# Altium integrated library Motorola Microcontroller 8-Bit.IntLib: 909 symbols (part 30 of 31)
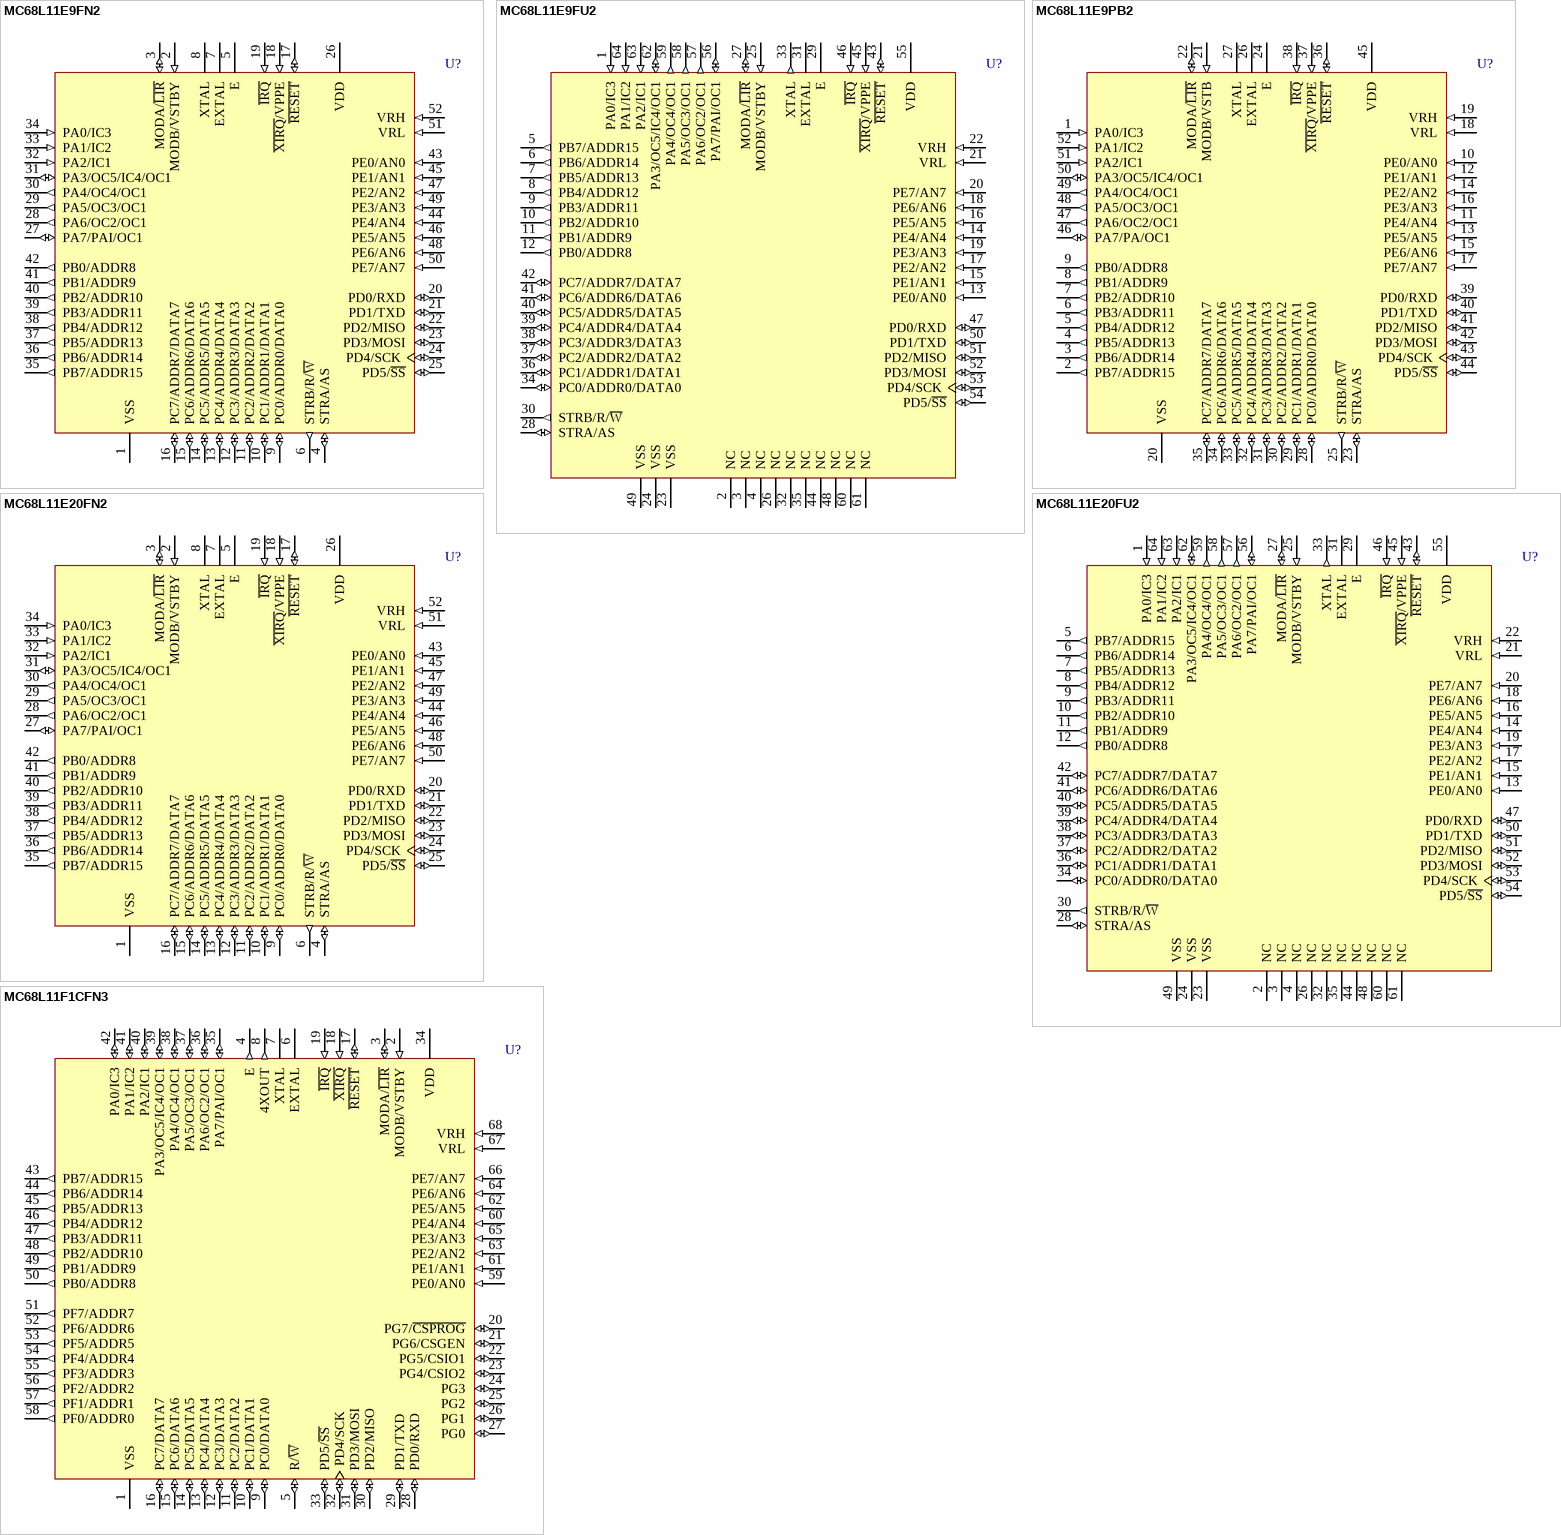
[diagram p142: symbols MC68L11E9FN2 to MC68L11F1CFN3]

## MC68L11E20FU2
designator U?
8-Bit Microcontroller; Published: 17-Jan-2003; LatestRevisionDate: 13-Apr-2006; LatestRevisionNote: IPC-7351 Footprint Added.; DatasheetVersion: 25-Jul-2002; PackageVersion: rev4, Jul-2002; PackageReference: 840C; Publisher: Altium Limited; PackageDescription: 64-Pin Quad Flat Pack 0.8 mm Pitch; ComponentLink1Description: Manufacturer Link; ComponentLink1URL: http://www.freescale.com/; ComponentLink2Description: Datasheet; ComponentLink2URL: http://www.freescale.com/files/microcontrollers/doc/data_sheet/M68HC11E.pdf
footprint 840C_N (QFP, 64-Leads, Body 14x14mm, Pitch 0.8mm, IPC Medium Density)
footprint 840C_L (QFP, 64-Leads, Body 14x14mm, Pitch 0.8mm, IPC High Density)
footprint 840C_M (QFP, 64-Leads, Body 14x14mm, Pitch 0.8mm, IPC Low Density)
3D model MC68L11-840C (64-Pin Quad Flat Pack 0.8 mm Pitch)
pins: 1 PA0/IC3 (in), 2 NC, 3 NC, 4 NC, 5 PB7/ADDR15 (out), 6 PB6/ADDR14 (out), 7 PB5/ADDR13 (out), 8 PB4/ADDR12 (out), 9 PB3/ADDR11 (out), 10 PB2/ADDR10 (out), 11 PB1/ADDR9 (out), 12 PB0/ADDR8 (out), 13 PE0/AN0 (in), 14 PE4/AN4 (in), 15 PE1/AN1 (in), 16 PE5/AN5 (in), 17 PE2/AN2 (in), 18 PE6/AN6 (in), 19 PE3/AN3 (in), 20 PE7/AN7 (in), 21 VRL (in), 22 VRH (in), 23 VSS (power), 24 VSS (power), 25 MODB/VSTBY (in), 26 NC, 27 MODA/~{LIR} (io), 28 STRA/AS (io), 29 E, 30 STRB/R/~{W} (out), 31 EXTAL, 32 NC, 33 XTAL (out), 34 PC0/ADDR0/DATA0 (io), 35 NC, 36 PC1/ADDR1/DATA1 (io), 37 PC2/ADDR2/DATA2 (io), 38 PC3/ADDR3/DATA3 (io), 39 PC4/ADDR4/DATA4 (io), 40 PC5/ADDR5/DATA5 (io), 41 PC6/ADDR6/DATA6 (io), 42 PC7/ADDR7/DATA7 (io), 43 ~{RESET} (io), 44 NC, 45 ~{XIRQ}/VPPE (in), 46 ~{IRQ} (in), 47 PD0/RXD (io), 48 NC, 49 VSS (power), 50 PD1/TXD (io), 51 PD2/MISO (io), 52 PD3/MOSI (io), 53 PD4/SCK (io), 54 PD5/~{SS} (io), 55 VDD (power), 56 PA7/PAI/OC1 (io), 57 PA6/OC2/OC1 (out), 58 PA5/OC3/OC1 (out), 59 PA4/OC4/OC1 (out), 60 NC, 61 NC, 62 PA3/OC5/IC4/OC1 (io), 63 PA2/IC1 (in), 64 PA1/IC2 (in)

## MC68L11F1CFN3
designator U?
8-Bit Microcontroller; Published: 17-Jan-2003; LatestRevisionDate: 13-Apr-2006; LatestRevisionNote: IPC-7351 Footprint Added.; DatasheetVersion: 10-Jan-1997; PackageVersion: 2001; PackageReference: 779-02; Publisher: Altium Limited; PackageDescription: 68-Pin Leaded Chip Carrier 1.27 mm Pitch; ComponentLink1Description: Manufacturer Link; ComponentLink1URL: http://www.freescale.com/
footprint 779-02_N (Leaded Chip Carrier, 68-Leads, Body 24.2x24.2mm, Pitch 1.27mm, IPC Medium Density)
footprint 779-02_L (Leaded Chip Carrier, 68-Leads, Body 24.2x24.2mm, Pitch 1.27mm, IPC High Density)
footprint 779-02_M (Leaded Chip Carrier, 68-Leads, Body 24.2x24.2mm, Pitch 1.27mm, IPC Low Density)
3D model MC68L11-779-02 (68-Pin Leaded Chip Carrier 1.27 mm Pitch)
pins: 1 VSS (power), 2 MODB/VSTBY (in), 3 MODA/~{LIR} (io), 4 E (out), 5 R/~{W} (io), 6 EXTAL, 7 XTAL, 8 4XOUT (out), 9 PC0/DATA0 (io), 10 PC1/DATA1 (io), 11 PC2/DATA2 (io), 12 PC3/DATA3 (io), 13 PC4/DATA4 (io), 14 PC5/DATA5 (io), 15 PC6/DATA6 (io), 16 PC7/DATA7 (io), 17 ~{RESET} (io), 18 ~{XIRQ} (in), 19 ~{IRQ} (in), 20 PG7/~{CSPROG} (io), 21 PG6/CSGEN (io), 22 PG5/CSIO1 (io), 23 PG4/CSIO2 (io), 24 PG3 (io), 25 PG2 (io), 26 PG1 (io), 27 PG0 (io), 28 PD0/RXD (io), 29 PD1/TXD (io), 30 PD2/MISO (io), 31 PD3/MOSI (io), 32 PD4/SCK (io), 33 PD5/~{SS} (io), 34 VDD (power), 35 PA7/PAI/OC1 (io), 36 PA6/OC2/OC1 (io), 37 PA5/OC3/OC1 (io), 38 PA4/OC4/OC1 (io), 39 PA3/OC5/IC4/OC1 (io), 40 PA2/IC1 (io), 41 PA1/IC2 (io), 42 PA0/IC3 (io), 43 PB7/ADDR15 (out), 44 PB6/ADDR14 (out), 45 PB5/ADDR13 (out), 46 PB4/ADDR12 (out), 47 PB3/ADDR11 (out), 48 PB2/ADDR10 (out), 49 PB1/ADDR9 (out), 50 PB0/ADDR8 (out), 51 PF7/ADDR7 (out), 52 PF6/ADDR6 (out), 53 PF5/ADDR5 (out), 54 PF4/ADDR4 (out), 55 PF3/ADDR3 (out), 56 PF2/ADDR2 (out), 57 PF1/ADDR1 (out), 58 PF0/ADDR0 (out), 59 PE0/AN0 (in), 60 PE4/AN4 (in), 61 PE1/AN1 (in), 62 PE5/AN5 (in), 63 PE2/AN2 (in), 64 PE6/AN6 (in), 65 PE3/AN3 (in), 66 PE7/AN7 (in), 67 VRL (in), 68 VRH (in)

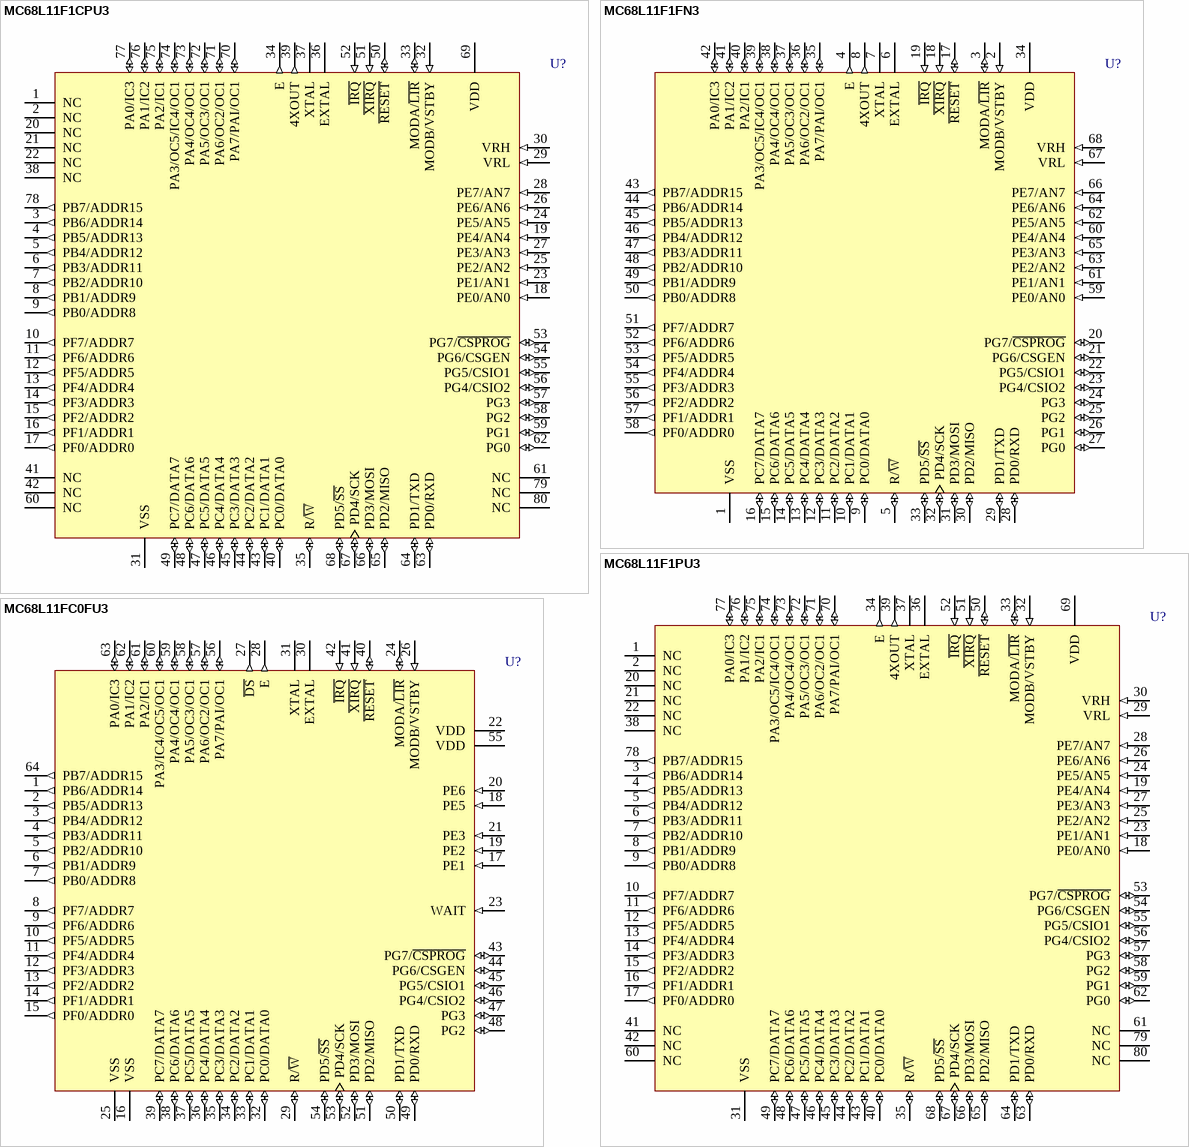
[diagram p105: symbols MC68L11F1CPU3 to MC68L11FC0FU3]

## MC68L11F1CPU3
designator U?
8-Bit Microcontroller; Published: 17-Jan-2003; LatestRevisionDate: 13-Apr-2006; LatestRevisionNote: IPC-7351 Footprint Added.; DatasheetVersion: 10-Jan-1997; PackageVersion: 2000; PackageReference: 841B; Publisher: Altium Limited; PackageDescription: 80-Pin Plastic Quad Flat Pack 0.65 mm Pitch; Code_IPC: QFP65P1720X1720-80; ComponentLink1Description: Manufacturer Link; ComponentLink1URL: http://www.freescale.com/
footprint 841B_N (QFP, 80-Leads, Body 14 x 14mm, Pitch 0.65mm, IPC Medium Density)
footprint 841B_L (QFP, 80-Leads, Body 14 x 14mm, Pitch 0.65mm, IPC High Density)
footprint 841B_M (QFP, 80-Leads, Body 14 x 14mm, Pitch 0.65mm, IPC Low Density)
3D model MC68L11-841B (80-Pin Plastic Quad Flat Pack 0.65 mm Pitch)
pins: 1 NC, 2 NC, 3 PB6/ADDR14 (out), 4 PB5/ADDR13 (out), 5 PB4/ADDR12 (out), 6 PB3/ADDR11 (out), 7 PB2/ADDR10 (out), 8 PB1/ADDR9 (out), 9 PB0/ADDR8 (out), 10 PF7/ADDR7 (out), 11 PF6/ADDR6 (out), 12 PF5/ADDR5 (out), 13 PF4/ADDR4 (out), 14 PF3/ADDR3 (out), 15 PF2/ADDR2 (out), 16 PF1/ADDR1 (out), 17 PF0/ADDR0 (out), 18 PE0/AN0 (in), 19 PE4/AN4 (in), 20 NC, 21 NC, 22 NC, 23 PE1/AN1 (in), 24 PE5/AN5 (in), 25 PE2/AN2 (in), 26 PE6/AN6 (in), 27 PE3/AN3 (in), 28 PE7/AN7 (in), 29 VRL (in), 30 VRH (in), 31 VSS (power), 32 MODB/VSTBY (in), 33 MODA/~{LIR} (io), 34 E (out), 35 R/~{W} (io), 36 EXTAL, 37 XTAL, 38 NC, 39 4XOUT (out), 40 PC0/DATA0 (io), 41 NC, 42 NC, 43 PC1/DATA1 (io), 44 PC2/DATA2 (io), 45 PC3/DATA3 (io), 46 PC4/DATA4 (io), 47 PC5/DATA5 (io), 48 PC6/DATA6 (io), 49 PC7/DATA7 (io), 50 ~{RESET} (io), 51 ~{XIRQ} (in), 52 ~{IRQ} (in), 53 PG7/~{CSPROG} (io), 54 PG6/CSGEN (io), 55 PG5/CSIO1 (io), 56 PG4/CSIO2 (io), 57 PG3 (io), 58 PG2 (io), 59 PG1 (io), 60 NC, 61 NC, 62 PG0 (io), 63 PD0/RXD (io), 64 PD1/TXD (io), 65 PD2/MISO (io), 66 PD3/MOSI (io), 67 PD4/SCK (io), 68 PD5/~{SS} (io), 69 VDD (power), 70 PA7/PAI/OC1 (io), 71 PA6/OC2/OC1 (io), 72 PA5/OC3/OC1 (io), 73 PA4/OC4/OC1 (io), 74 PA3/OC5/IC4/OC1 (io), 75 PA2/IC1 (io), 76 PA1/IC2 (io), 77 PA0/IC3 (io), 78 PB7/ADDR15 (out), 79 NC, 80 NC

## MC68L11F1FN3
designator U?
8-Bit Microcontroller; Published: 17-Jan-2003; LatestRevisionDate: 13-Apr-2006; LatestRevisionNote: IPC-7351 Footprint Added.; DatasheetVersion: 10-Jan-1997; PackageVersion: 2001; PackageReference: 779-02; Publisher: Altium Limited; PackageDescription: 68-Pin Leaded Chip Carrier 1.27 mm Pitch; ComponentLink1Description: Manufacturer Link; ComponentLink1URL: http://www.freescale.com/
footprint 779-02_N (Leaded Chip Carrier, 68-Leads, Body 24.2x24.2mm, Pitch 1.27mm, IPC Medium Density)
footprint 779-02_L (Leaded Chip Carrier, 68-Leads, Body 24.2x24.2mm, Pitch 1.27mm, IPC High Density)
footprint 779-02_M (Leaded Chip Carrier, 68-Leads, Body 24.2x24.2mm, Pitch 1.27mm, IPC Low Density)
3D model MC68L11-779-02 (68-Pin Leaded Chip Carrier 1.27 mm Pitch)
pins: 1 VSS (power), 2 MODB/VSTBY (in), 3 MODA/~{LIR} (io), 4 E (out), 5 R/~{W} (io), 6 EXTAL, 7 XTAL, 8 4XOUT (out), 9 PC0/DATA0 (io), 10 PC1/DATA1 (io), 11 PC2/DATA2 (io), 12 PC3/DATA3 (io), 13 PC4/DATA4 (io), 14 PC5/DATA5 (io), 15 PC6/DATA6 (io), 16 PC7/DATA7 (io), 17 ~{RESET} (io), 18 ~{XIRQ} (in), 19 ~{IRQ} (in), 20 PG7/~{CSPROG} (io), 21 PG6/CSGEN (io), 22 PG5/CSIO1 (io), 23 PG4/CSIO2 (io), 24 PG3 (io), 25 PG2 (io), 26 PG1 (io), 27 PG0 (io), 28 PD0/RXD (io), 29 PD1/TXD (io), 30 PD2/MISO (io), 31 PD3/MOSI (io), 32 PD4/SCK (io), 33 PD5/~{SS} (io), 34 VDD (power), 35 PA7/PAI/OC1 (io), 36 PA6/OC2/OC1 (io), 37 PA5/OC3/OC1 (io), 38 PA4/OC4/OC1 (io), 39 PA3/OC5/IC4/OC1 (io), 40 PA2/IC1 (io), 41 PA1/IC2 (io), 42 PA0/IC3 (io), 43 PB7/ADDR15 (out), 44 PB6/ADDR14 (out), 45 PB5/ADDR13 (out), 46 PB4/ADDR12 (out), 47 PB3/ADDR11 (out), 48 PB2/ADDR10 (out), 49 PB1/ADDR9 (out), 50 PB0/ADDR8 (out), 51 PF7/ADDR7 (out), 52 PF6/ADDR6 (out), 53 PF5/ADDR5 (out), 54 PF4/ADDR4 (out), 55 PF3/ADDR3 (out), 56 PF2/ADDR2 (out), 57 PF1/ADDR1 (out), 58 PF0/ADDR0 (out), 59 PE0/AN0 (in), 60 PE4/AN4 (in), 61 PE1/AN1 (in), 62 PE5/AN5 (in), 63 PE2/AN2 (in), 64 PE6/AN6 (in), 65 PE3/AN3 (in), 66 PE7/AN7 (in), 67 VRL (in), 68 VRH (in)

## MC68L11F1PU3
designator U?
8-Bit Microcontroller; Published: 17-Jan-2003; LatestRevisionDate: 13-Apr-2006; LatestRevisionNote: IPC-7351 Footprint Added.; DatasheetVersion: 10-Jan-1997; PackageVersion: 2000; PackageReference: 841B; Publisher: Altium Limited; PackageDescription: 80-Pin Plastic Quad Flat Pack 0.65 mm Pitch; Code_IPC: QFP65P1720X1720-80; ComponentLink1Description: Manufacturer Link; ComponentLink1URL: http://www.freescale.com/
footprint 841B_N (QFP, 80-Leads, Body 14 x 14mm, Pitch 0.65mm, IPC Medium Density)
footprint 841B_L (QFP, 80-Leads, Body 14 x 14mm, Pitch 0.65mm, IPC High Density)
footprint 841B_M (QFP, 80-Leads, Body 14 x 14mm, Pitch 0.65mm, IPC Low Density)
3D model MC68L11-841B (80-Pin Plastic Quad Flat Pack 0.65 mm Pitch)
pins: 1 NC, 2 NC, 3 PB6/ADDR14 (out), 4 PB5/ADDR13 (out), 5 PB4/ADDR12 (out), 6 PB3/ADDR11 (out), 7 PB2/ADDR10 (out), 8 PB1/ADDR9 (out), 9 PB0/ADDR8 (out), 10 PF7/ADDR7 (out), 11 PF6/ADDR6 (out), 12 PF5/ADDR5 (out), 13 PF4/ADDR4 (out), 14 PF3/ADDR3 (out), 15 PF2/ADDR2 (out), 16 PF1/ADDR1 (out), 17 PF0/ADDR0 (out), 18 PE0/AN0 (in), 19 PE4/AN4 (in), 20 NC, 21 NC, 22 NC, 23 PE1/AN1 (in), 24 PE5/AN5 (in), 25 PE2/AN2 (in), 26 PE6/AN6 (in), 27 PE3/AN3 (in), 28 PE7/AN7 (in), 29 VRL (in), 30 VRH (in), 31 VSS (power), 32 MODB/VSTBY (in), 33 MODA/~{LIR} (io), 34 E (out), 35 R/~{W} (io), 36 EXTAL, 37 XTAL, 38 NC, 39 4XOUT (out), 40 PC0/DATA0 (io), 41 NC, 42 NC, 43 PC1/DATA1 (io), 44 PC2/DATA2 (io), 45 PC3/DATA3 (io), 46 PC4/DATA4 (io), 47 PC5/DATA5 (io), 48 PC6/DATA6 (io), 49 PC7/DATA7 (io), 50 ~{RESET} (io), 51 ~{XIRQ} (in), 52 ~{IRQ} (in), 53 PG7/~{CSPROG} (io), 54 PG6/CSGEN (io), 55 PG5/CSIO1 (io), 56 PG4/CSIO2 (io), 57 PG3 (io), 58 PG2 (io), 59 PG1 (io), 60 NC, 61 NC, 62 PG0 (io), 63 PD0/RXD (io), 64 PD1/TXD (io), 65 PD2/MISO (io), 66 PD3/MOSI (io), 67 PD4/SCK (io), 68 PD5/~{SS} (io), 69 VDD (power), 70 PA7/PAI/OC1 (io), 71 PA6/OC2/OC1 (io), 72 PA5/OC3/OC1 (io), 73 PA4/OC4/OC1 (io), 74 PA3/OC5/IC4/OC1 (io), 75 PA2/IC1 (io), 76 PA1/IC2 (io), 77 PA0/IC3 (io), 78 PB7/ADDR15 (out), 79 NC, 80 NC

## MC68L11FC0FU3
designator U?
8-Bit Microcontroller; Published: 17-Jan-2003; LatestRevisionDate: 13-Apr-2006; LatestRevisionNote: IPC-7351 Footprint Added.; DatasheetVersion: 10-Jan-1997; PackageVersion: rev4, Jul-2002; PackageReference: 840C; Publisher: Altium Limited; PackageDescription: 64-Pin Quad Flat Pack 0.8 mm Pitch; ComponentLink1Description: Manufacturer Link; ComponentLink1URL: http://www.freescale.com/
footprint 840C_N (QFP, 64-Leads, Body 14x14mm, Pitch 0.8mm, IPC Medium Density)
footprint 840C_L (QFP, 64-Leads, Body 14x14mm, Pitch 0.8mm, IPC High Density)
footprint 840C_M (QFP, 64-Leads, Body 14x14mm, Pitch 0.8mm, IPC Low Density)
3D model MC68L11-840C (64-Pin Quad Flat Pack 0.8 mm Pitch)
pins: 1 PB6/ADDR14 (out), 2 PB5/ADDR13 (out), 3 PB4/ADDR12 (out), 4 PB3/ADDR11 (out), 5 PB2/ADDR10 (out), 6 PB1/ADDR9 (out), 7 PB0/ADDR8 (out), 8 PF7/ADDR7 (out), 9 PF6/ADDR6 (out), 10 PF5/ADDR5 (out), 11 PF4/ADDR4 (out), 12 PF3/ADDR3 (out), 13 PF2/ADDR2 (out), 14 PF1/ADDR1 (out), 15 PF0/ADDR0 (out), 16 VSS (power), 17 PE1 (in), 18 PE5 (in), 19 PE2 (in), 20 PE6 (in), 21 PE3 (in), 22 VDD (power), 23 WAIT (in), 24 MODA/~{LIR} (io), 25 VSS (power), 26 MODB/VSTBY (in), 27 ~{DS} (out), 28 E (out), 29 R/~{W} (io), 30 EXTAL, 31 XTAL, 32 PC0/DATA0 (io), 33 PC1/DATA1 (io), 34 PC2/DATA2 (io), 35 PC3/DATA3 (io), 36 PC4/DATA4 (io), 37 PC5/DATA5 (io), 38 PC6/DATA6 (io), 39 PC7/DATA7 (io), 40 ~{RESET} (io), 41 ~{XIRQ} (in), 42 ~{IRQ} (in), 43 PG7/~{CSPROG} (io), 44 PG6/CSGEN (io), 45 PG5/CSIO1 (io), 46 PG4/CSIO2 (io), 47 PG3 (io), 48 PG2 (io), 49 PD0/RXD (io), 50 PD1/TXD (io), 51 PD2/MISO (io), 52 PD3/MOSI (io), 53 PD4/SCK (io), 54 PD5/~{SS} (io), 55 VDD (power), 56 PA7/PAI/OC1 (io), 57 PA6/OC2/OC1 (io), 58 PA5/OC3/OC1 (io), 59 PA4/OC4/OC1 (io), 60 PA3/IC4/OC5/OC1 (io), 61 PA2/IC1 (io), 62 PA1/IC2 (io), 63 PA0/IC3 (io), 64 PB7/ADDR15 (out)

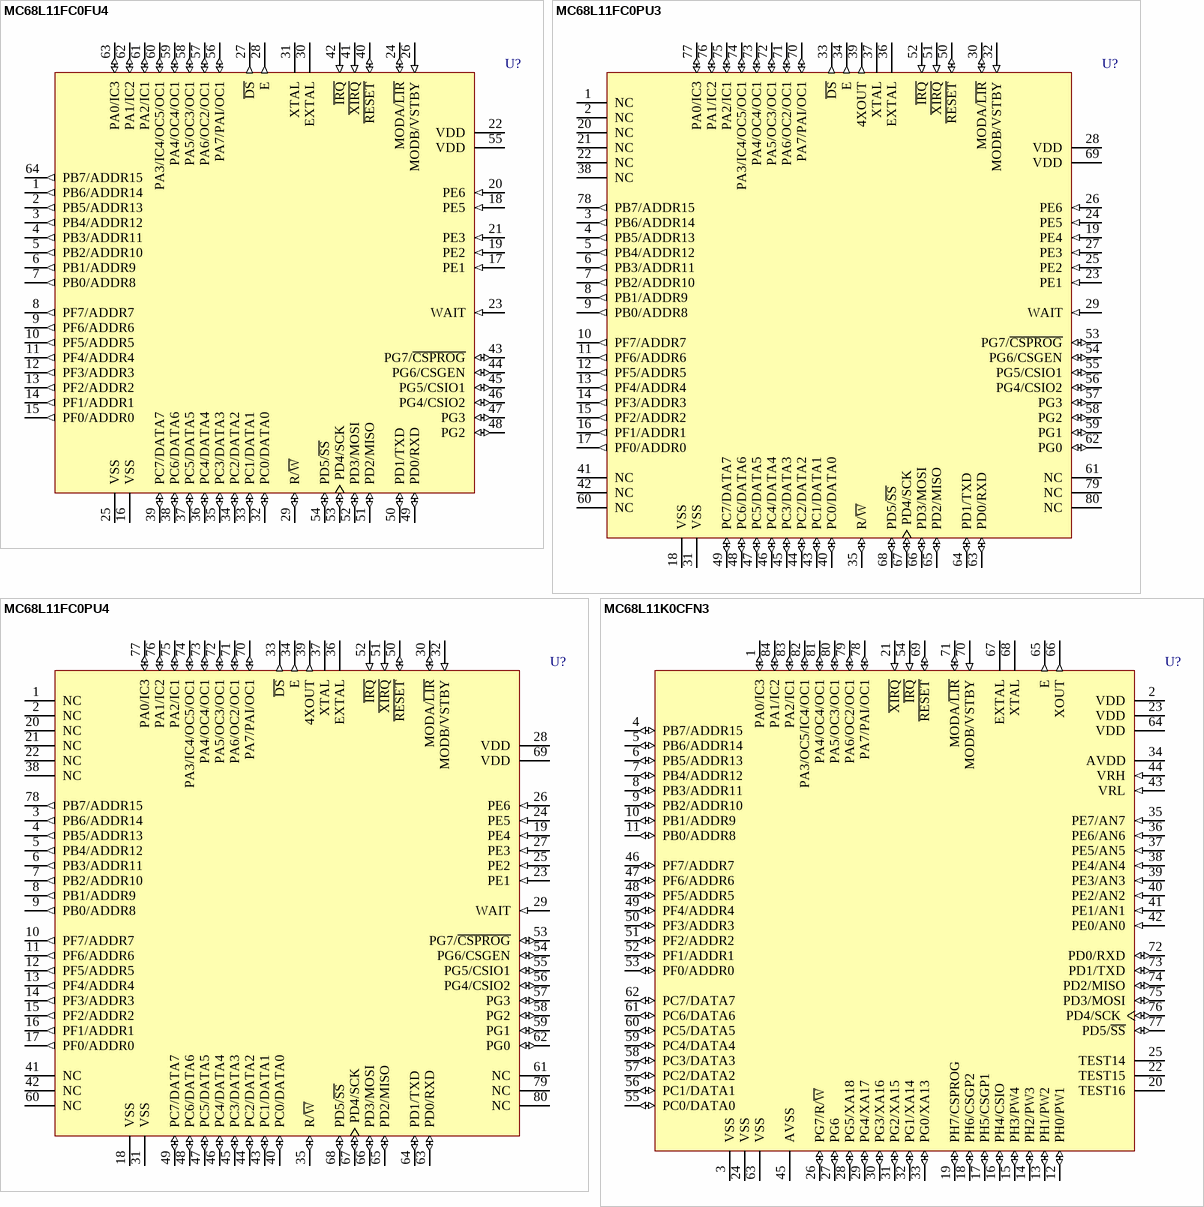
[diagram p106: symbols MC68L11FC0FU4 to MC68L11K0CFN3]

## MC68L11FC0FU4
designator U?
8-Bit Microcontroller; Published: 17-Jan-2003; LatestRevisionDate: 13-Apr-2006; LatestRevisionNote: IPC-7351 Footprint Added.; DatasheetVersion: 10-Jan-1997; PackageVersion: rev4, Jul-2002; PackageReference: 840C; Publisher: Altium Limited; PackageDescription: 64-Pin Quad Flat Pack 0.8 mm Pitch; ComponentLink1Description: Manufacturer Link; ComponentLink1URL: http://www.freescale.com/
footprint 840C_N (QFP, 64-Leads, Body 14x14mm, Pitch 0.8mm, IPC Medium Density)
footprint 840C_L (QFP, 64-Leads, Body 14x14mm, Pitch 0.8mm, IPC High Density)
footprint 840C_M (QFP, 64-Leads, Body 14x14mm, Pitch 0.8mm, IPC Low Density)
3D model MC68L11-840C (64-Pin Quad Flat Pack 0.8 mm Pitch)
pins: 1 PB6/ADDR14 (out), 2 PB5/ADDR13 (out), 3 PB4/ADDR12 (out), 4 PB3/ADDR11 (out), 5 PB2/ADDR10 (out), 6 PB1/ADDR9 (out), 7 PB0/ADDR8 (out), 8 PF7/ADDR7 (out), 9 PF6/ADDR6 (out), 10 PF5/ADDR5 (out), 11 PF4/ADDR4 (out), 12 PF3/ADDR3 (out), 13 PF2/ADDR2 (out), 14 PF1/ADDR1 (out), 15 PF0/ADDR0 (out), 16 VSS (power), 17 PE1 (in), 18 PE5 (in), 19 PE2 (in), 20 PE6 (in), 21 PE3 (in), 22 VDD (power), 23 WAIT (in), 24 MODA/~{LIR} (io), 25 VSS (power), 26 MODB/VSTBY (in), 27 ~{DS} (out), 28 E (out), 29 R/~{W} (io), 30 EXTAL, 31 XTAL, 32 PC0/DATA0 (io), 33 PC1/DATA1 (io), 34 PC2/DATA2 (io), 35 PC3/DATA3 (io), 36 PC4/DATA4 (io), 37 PC5/DATA5 (io), 38 PC6/DATA6 (io), 39 PC7/DATA7 (io), 40 ~{RESET} (io), 41 ~{XIRQ} (in), 42 ~{IRQ} (in), 43 PG7/~{CSPROG} (io), 44 PG6/CSGEN (io), 45 PG5/CSIO1 (io), 46 PG4/CSIO2 (io), 47 PG3 (io), 48 PG2 (io), 49 PD0/RXD (io), 50 PD1/TXD (io), 51 PD2/MISO (io), 52 PD3/MOSI (io), 53 PD4/SCK (io), 54 PD5/~{SS} (io), 55 VDD (power), 56 PA7/PAI/OC1 (io), 57 PA6/OC2/OC1 (io), 58 PA5/OC3/OC1 (io), 59 PA4/OC4/OC1 (io), 60 PA3/IC4/OC5/OC1 (io), 61 PA2/IC1 (io), 62 PA1/IC2 (io), 63 PA0/IC3 (io), 64 PB7/ADDR15 (out)

## MC68L11FC0PU3
designator U?
8-Bit Microcontroller; Published: 17-Jan-2003; LatestRevisionDate: 13-Apr-2006; LatestRevisionNote: IPC-7351 Footprint Added.; DatasheetVersion: 10-Jan-1997; PackageVersion: 2000; PackageReference: 841B; Publisher: Altium Limited; PackageDescription: 80-Pin Plastic Quad Flat Pack 0.65 mm Pitch; Code_IPC: QFP65P1720X1720-80; ComponentLink1Description: Manufacturer Link; ComponentLink1URL: http://www.freescale.com/
footprint 841B_N (QFP, 80-Leads, Body 14 x 14mm, Pitch 0.65mm, IPC Medium Density)
footprint 841B_L (QFP, 80-Leads, Body 14 x 14mm, Pitch 0.65mm, IPC High Density)
footprint 841B_M (QFP, 80-Leads, Body 14 x 14mm, Pitch 0.65mm, IPC Low Density)
3D model MC68L11-841B (80-Pin Plastic Quad Flat Pack 0.65 mm Pitch)
pins: 1 NC, 2 NC, 3 PB6/ADDR14 (out), 4 PB5/ADDR13 (out), 5 PB4/ADDR12 (out), 6 PB3/ADDR11 (out), 7 PB2/ADDR10 (out), 8 PB1/ADDR9 (out), 9 PB0/ADDR8 (out), 10 PF7/ADDR7 (out), 11 PF6/ADDR6 (out), 12 PF5/ADDR5 (out), 13 PF4/ADDR4 (out), 14 PF3/ADDR3 (out), 15 PF2/ADDR2 (out), 16 PF1/ADDR1 (out), 17 PF0/ADDR0 (out), 18 VSS (power), 19 PE4 (in), 20 NC, 21 NC, 22 NC, 23 PE1 (in), 24 PE5 (in), 25 PE2 (in), 26 PE6 (in), 27 PE3 (in), 28 VDD (power), 29 WAIT (in), 30 MODA/~{LIR} (io), 31 VSS (power), 32 MODB/VSTBY (in), 33 ~{DS} (out), 34 E (out), 35 R/~{W} (io), 36 EXTAL, 37 XTAL, 38 NC, 39 4XOUT (out), 40 PC0/DATA0 (io), 41 NC, 42 NC, 43 PC1/DATA1 (io), 44 PC2/DATA2 (io), 45 PC3/DATA3 (io), 46 PC4/DATA4 (io), 47 PC5/DATA5 (io), 48 PC6/DATA6 (io), 49 PC7/DATA7 (io), 50 ~{RESET} (io), 51 ~{XIRQ} (in), 52 ~{IRQ} (in), 53 PG7/~{CSPROG} (io), 54 PG6/CSGEN (io), 55 PG5/CSIO1 (io), 56 PG4/CSIO2 (io), 57 PG3 (io), 58 PG2 (io), 59 PG1 (io), 60 NC, 61 NC, 62 PG0 (io), 63 PD0/RXD (io), 64 PD1/TXD (io), 65 PD2/MISO (io), 66 PD3/MOSI (io), 67 PD4/SCK (io), 68 PD5/~{SS} (io), 69 VDD (power), 70 PA7/PAI/OC1 (io), 71 PA6/OC2/OC1 (io), 72 PA5/OC3/OC1 (io), 73 PA4/OC4/OC1 (io), 74 PA3/IC4/OC5/OC1 (io), 75 PA2/IC1 (io), 76 PA1/IC2 (io), 77 PA0/IC3 (io), 78 PB7/ADDR15 (out), 79 NC, 80 NC

## MC68L11FC0PU4
designator U?
8-Bit Microcontroller; Published: 17-Jan-2003; LatestRevisionDate: 13-Apr-2006; LatestRevisionNote: IPC-7351 Footprint Added.; DatasheetVersion: 10-Jan-1997; PackageVersion: 2000; PackageReference: 841B; Publisher: Altium Limited; PackageDescription: 80-Pin Plastic Quad Flat Pack 0.65 mm Pitch; Code_IPC: QFP65P1720X1720-80; ComponentLink1Description: Manufacturer Link; ComponentLink1URL: http://www.freescale.com/
footprint 841B_N (QFP, 80-Leads, Body 14 x 14mm, Pitch 0.65mm, IPC Medium Density)
footprint 841B_L (QFP, 80-Leads, Body 14 x 14mm, Pitch 0.65mm, IPC High Density)
footprint 841B_M (QFP, 80-Leads, Body 14 x 14mm, Pitch 0.65mm, IPC Low Density)
3D model MC68L11-841B (80-Pin Plastic Quad Flat Pack 0.65 mm Pitch)
pins: 1 NC, 2 NC, 3 PB6/ADDR14 (out), 4 PB5/ADDR13 (out), 5 PB4/ADDR12 (out), 6 PB3/ADDR11 (out), 7 PB2/ADDR10 (out), 8 PB1/ADDR9 (out), 9 PB0/ADDR8 (out), 10 PF7/ADDR7 (out), 11 PF6/ADDR6 (out), 12 PF5/ADDR5 (out), 13 PF4/ADDR4 (out), 14 PF3/ADDR3 (out), 15 PF2/ADDR2 (out), 16 PF1/ADDR1 (out), 17 PF0/ADDR0 (out), 18 VSS (power), 19 PE4 (in), 20 NC, 21 NC, 22 NC, 23 PE1 (in), 24 PE5 (in), 25 PE2 (in), 26 PE6 (in), 27 PE3 (in), 28 VDD (power), 29 WAIT (in), 30 MODA/~{LIR} (io), 31 VSS (power), 32 MODB/VSTBY (in), 33 ~{DS} (out), 34 E (out), 35 R/~{W} (io), 36 EXTAL, 37 XTAL, 38 NC, 39 4XOUT (out), 40 PC0/DATA0 (io), 41 NC, 42 NC, 43 PC1/DATA1 (io), 44 PC2/DATA2 (io), 45 PC3/DATA3 (io), 46 PC4/DATA4 (io), 47 PC5/DATA5 (io), 48 PC6/DATA6 (io), 49 PC7/DATA7 (io), 50 ~{RESET} (io), 51 ~{XIRQ} (in), 52 ~{IRQ} (in), 53 PG7/~{CSPROG} (io), 54 PG6/CSGEN (io), 55 PG5/CSIO1 (io), 56 PG4/CSIO2 (io), 57 PG3 (io), 58 PG2 (io), 59 PG1 (io), 60 NC, 61 NC, 62 PG0 (io), 63 PD0/RXD (io), 64 PD1/TXD (io), 65 PD2/MISO (io), 66 PD3/MOSI (io), 67 PD4/SCK (io), 68 PD5/~{SS} (io), 69 VDD (power), 70 PA7/PAI/OC1 (io), 71 PA6/OC2/OC1 (io), 72 PA5/OC3/OC1 (io), 73 PA4/OC4/OC1 (io), 74 PA3/IC4/OC5/OC1 (io), 75 PA2/IC1 (io), 76 PA1/IC2 (io), 77 PA0/IC3 (io), 78 PB7/ADDR15 (out), 79 NC, 80 NC

## MC68L11K0CFN3
designator U?
8-Bit Microcontroller; Note: Pins 20, 22 and 25 are used only during factory testing. Do not connect to external circuitry.; Published: 17-Jan-2003; LatestRevisionDate: 13-Apr-2006; LatestRevisionNote: IPC-7351 Footprint Added.; DatasheetVersion: Nov-2001; PackageVersion: 2001; PackageReference: 780; Publisher: Altium Limited; PackageDescription: 84-Pin Plastic Leaded Chip Carrier 1.27 mm Pitch; Code_IPC: PLCC-84; ComponentLink1Description: Manufacturer Link; ComponentLink1URL: http://www.freescale.com/
footprint 780_N (Leaded Chip Carrier, 84-Leads, Body 29.3x29.3mm, Pitch 1.27mm, IPC Medium Density)
footprint 780_L (Leaded Chip Carrier, 84-Leads, Body 29.3x29.3mm, Pitch 1.27mm, IPC High Density)
footprint 780_M (Leaded Chip Carrier, 84-Leads, Body 29.3x29.3mm, Pitch 1.27mm, IPC Low Density)
3D model MC68L11-780 (84-Pin Plastic Leaded Chip Carrier 1.27 mm Pitch)
pins: 1 PA0/IC3 (io), 2 VDD (power), 3 VSS (power), 4 PB7/ADDR15 (io), 5 PB6/ADDR14 (io), 6 PB5/ADDR13 (io), 7 PB4/ADDR12 (io), 8 PB3/ADDR11 (io), 9 PB2/ADDR10 (io), 10 PB1/ADDR9 (io), 11 PB0/ADDR8 (io), 12 PH0/PW1 (io), 13 PH1/PW2 (io), 14 PH2/PW3 (io), 15 PH3/PW4 (io), 16 PH4/CSIO (io), 17 PH5/CSGP1 (io), 18 PH6/CSGP2 (io), 19 PH7/CSPROG (io), 20 TEST16, 21 ~{XIRQ} (in), 22 TEST15, 23 VDD (power), 24 VSS (power), 25 TEST14, 26 PG7/R/~{W} (io), 27 PG6 (io), 28 PG5/XA18 (io), 29 PG4/XA17 (io), 30 PG3/XA16 (io), 31 PG2/XA15 (io), 32 PG1/XA14 (io), 33 PG0/XA13 (io), 34 AVDD (power), 35 PE7/AN7 (in), 36 PE6/AN6 (in), 37 PE5/AN5 (in), 38 PE4/AN4 (in), 39 PE3/AN3 (in), 40 PE2/AN2 (in), 41 PE1/AN1 (in), 42 PE0/AN0 (in), 43 VRL (in), 44 VRH (in), 45 AVSS (power), 46 PF7/ADDR7 (io), 47 PF6/ADDR6 (io), 48 PF5/ADDR5 (io), 49 PF4/ADDR4 (io), 50 PF3/ADDR3 (io), 51 PF2/ADDR2 (io), 52 PF1/ADDR1 (io), 53 PF0/ADDR0 (io), 54 ~{IRQ} (in), 55 PC0/DATA0 (io), 56 PC1/DATA1 (io), 57 PC2/DATA2 (io), 58 PC3/DATA3 (io), 59 PC4/DATA4 (io), 60 PC5/DATA5 (io), 61 PC6/DATA6 (io), 62 PC7/DATA7 (io), 63 VSS (power), 64 VDD (power), 65 E (out), 66 XOUT (out), 67 EXTAL, 68 XTAL, 69 ~{RESET} (io), 70 MODB/VSTBY (in), 71 MODA/~{LIR} (io), 72 PD0/RXD (io), 73 PD1/TXD (io), 74 PD2/MISO (io), 75 PD3/MOSI (io), 76 PD4/SCK (io), 77 PD5/~{SS} (io), 78 PA7/PAI/OC1 (io), 79 PA6/OC2/OC1 (io), 80 PA5/OC3/OC1 (io), 81 PA4/OC4/OC1 (io), 82 PA3/OC5/IC4/OC1 (io), 83 PA2/IC1 (io), 84 PA1/IC2 (io)

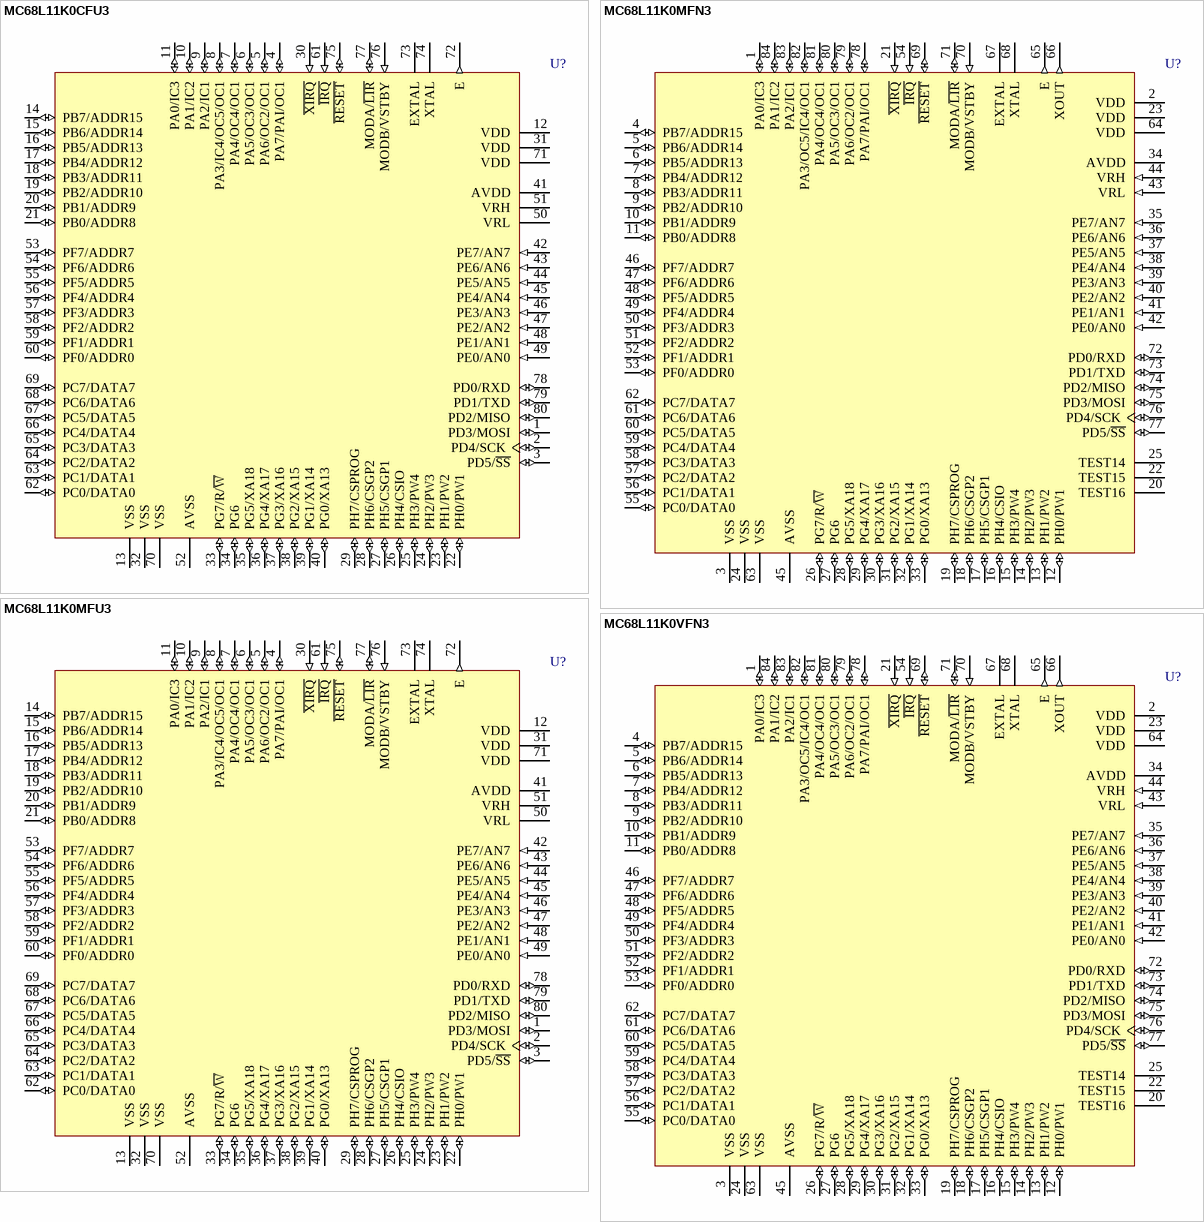
[diagram p107: symbols MC68L11K0CFU3 to MC68L11K0VFN3]

## MC68L11K0CFU3
designator U?
8-Bit Microcontroller; Published: 17-Jan-2003; LatestRevisionDate: 13-Apr-2006; LatestRevisionNote: IPC-7351 Footprint Added.; DatasheetVersion: Nov-2001; PackageVersion: 2000; PackageReference: 841B; Publisher: Altium Limited; PackageDescription: 80-Pin Plastic Quad Flat Pack 0.65 mm Pitch; Code_IPC: QFP65P1720X1720-80; ComponentLink1Description: Manufacturer Link; ComponentLink1URL: http://www.freescale.com/
footprint 841B_N (QFP, 80-Leads, Body 14 x 14mm, Pitch 0.65mm, IPC Medium Density)
footprint 841B_L (QFP, 80-Leads, Body 14 x 14mm, Pitch 0.65mm, IPC High Density)
footprint 841B_M (QFP, 80-Leads, Body 14 x 14mm, Pitch 0.65mm, IPC Low Density)
3D model MC68L11-841B (80-Pin Plastic Quad Flat Pack 0.65 mm Pitch)
pins: 1 PD3/MOSI (io), 2 PD4/SCK (io), 3 PD5/~{SS} (io), 4 PA7/PAI/OC1 (io), 5 PA6/OC2/OC1 (io), 6 PA5/OC3/OC1 (io), 7 PA4/OC4/OC1 (io), 8 PA3/IC4/OC5/OC1 (io), 9 PA2/IC1 (io), 10 PA1/IC2 (io), 11 PA0/IC3 (io), 12 VDD (power), 13 VSS (power), 14 PB7/ADDR15 (io), 15 PB6/ADDR14 (io), 16 PB5/ADDR13 (io), 17 PB4/ADDR12 (io), 18 PB3/ADDR11 (io), 19 PB2/ADDR10 (io), 20 PB1/ADDR9 (io), 21 PB0/ADDR8 (io), 22 PH0/PW1 (io), 23 PH1/PW2 (io), 24 PH2/PW3 (io), 25 PH3/PW4 (io), 26 PH4/CSIO (io), 27 PH5/CSGP1 (io), 28 PH6/CSGP2 (io), 29 PH7/CSPROG (io), 30 ~{XIRQ} (in), 31 VDD (power), 32 VSS (power), 33 PG7/R/~{W} (io), 34 PG6 (io), 35 PG5/XA18 (io), 36 PG4/XA17 (io), 37 PG3/XA16 (io), 38 PG2/XA15 (io), 39 PG1/XA14 (io), 40 PG0/XA13 (io), 41 AVDD (power), 42 PE7/AN7 (in), 43 PE6/AN6 (in), 44 PE5/AN5 (in), 45 PE4/AN4 (in), 46 PE3/AN3 (in), 47 PE2/AN2 (in), 48 PE1/AN1 (in), 49 PE0/AN0 (in), 50 VRL, 51 VRH, 52 AVSS (power), 53 PF7/ADDR7 (io), 54 PF6/ADDR6 (io), 55 PF5/ADDR5 (io), 56 PF4/ADDR4 (io), 57 PF3/ADDR3 (io), 58 PF2/ADDR2 (io), 59 PF1/ADDR1 (io), 60 PF0/ADDR0 (io), 61 ~{IRQ} (in), 62 PC0/DATA0 (io), 63 PC1/DATA1 (io), 64 PC2/DATA2 (io), 65 PC3/DATA3 (io), 66 PC4/DATA4 (io), 67 PC5/DATA5 (io), 68 PC6/DATA6 (io), 69 PC7/DATA7 (io), 70 VSS (power), 71 VDD (power), 72 E (out), 73 EXTAL, 74 XTAL, 75 ~{RESET} (io), 76 MODB/VSTBY (in), 77 MODA/~{LIR} (io), 78 PD0/RXD (io), 79 PD1/TXD (io), 80 PD2/MISO (io)

## MC68L11K0MFN3
designator U?
8-Bit Microcontroller; Note: Pins 20, 22 and 25 are used only during factory testing. Do not connect to external circuitry.; Published: 17-Jan-2003; LatestRevisionDate: 13-Apr-2006; LatestRevisionNote: IPC-7351 Footprint Added.; DatasheetVersion: Nov-2001; PackageVersion: 2001; PackageReference: 780; Publisher: Altium Limited; PackageDescription: 84-Pin Plastic Leaded Chip Carrier 1.27 mm Pitch; Code_IPC: PLCC-84; ComponentLink1Description: Manufacturer Link; ComponentLink1URL: http://www.freescale.com/
footprint 780_N (Leaded Chip Carrier, 84-Leads, Body 29.3x29.3mm, Pitch 1.27mm, IPC Medium Density)
footprint 780_L (Leaded Chip Carrier, 84-Leads, Body 29.3x29.3mm, Pitch 1.27mm, IPC High Density)
footprint 780_M (Leaded Chip Carrier, 84-Leads, Body 29.3x29.3mm, Pitch 1.27mm, IPC Low Density)
3D model MC68L11-780 (84-Pin Plastic Leaded Chip Carrier 1.27 mm Pitch)
pins: 1 PA0/IC3 (io), 2 VDD (power), 3 VSS (power), 4 PB7/ADDR15 (io), 5 PB6/ADDR14 (io), 6 PB5/ADDR13 (io), 7 PB4/ADDR12 (io), 8 PB3/ADDR11 (io), 9 PB2/ADDR10 (io), 10 PB1/ADDR9 (io), 11 PB0/ADDR8 (io), 12 PH0/PW1 (io), 13 PH1/PW2 (io), 14 PH2/PW3 (io), 15 PH3/PW4 (io), 16 PH4/CSIO (io), 17 PH5/CSGP1 (io), 18 PH6/CSGP2 (io), 19 PH7/CSPROG (io), 20 TEST16, 21 ~{XIRQ} (in), 22 TEST15, 23 VDD (power), 24 VSS (power), 25 TEST14, 26 PG7/R/~{W} (io), 27 PG6 (io), 28 PG5/XA18 (io), 29 PG4/XA17 (io), 30 PG3/XA16 (io), 31 PG2/XA15 (io), 32 PG1/XA14 (io), 33 PG0/XA13 (io), 34 AVDD (power), 35 PE7/AN7 (in), 36 PE6/AN6 (in), 37 PE5/AN5 (in), 38 PE4/AN4 (in), 39 PE3/AN3 (in), 40 PE2/AN2 (in), 41 PE1/AN1 (in), 42 PE0/AN0 (in), 43 VRL (in), 44 VRH (in), 45 AVSS (power), 46 PF7/ADDR7 (io), 47 PF6/ADDR6 (io), 48 PF5/ADDR5 (io), 49 PF4/ADDR4 (io), 50 PF3/ADDR3 (io), 51 PF2/ADDR2 (io), 52 PF1/ADDR1 (io), 53 PF0/ADDR0 (io), 54 ~{IRQ} (in), 55 PC0/DATA0 (io), 56 PC1/DATA1 (io), 57 PC2/DATA2 (io), 58 PC3/DATA3 (io), 59 PC4/DATA4 (io), 60 PC5/DATA5 (io), 61 PC6/DATA6 (io), 62 PC7/DATA7 (io), 63 VSS (power), 64 VDD (power), 65 E (out), 66 XOUT (out), 67 EXTAL, 68 XTAL, 69 ~{RESET} (io), 70 MODB/VSTBY (in), 71 MODA/~{LIR} (io), 72 PD0/RXD (io), 73 PD1/TXD (io), 74 PD2/MISO (io), 75 PD3/MOSI (io), 76 PD4/SCK (io), 77 PD5/~{SS} (io), 78 PA7/PAI/OC1 (io), 79 PA6/OC2/OC1 (io), 80 PA5/OC3/OC1 (io), 81 PA4/OC4/OC1 (io), 82 PA3/OC5/IC4/OC1 (io), 83 PA2/IC1 (io), 84 PA1/IC2 (io)

## MC68L11K0MFU3
designator U?
8-Bit Microcontroller; Published: 17-Jan-2003; LatestRevisionDate: 13-Apr-2006; LatestRevisionNote: IPC-7351 Footprint Added.; DatasheetVersion: Nov-2001; PackageVersion: 2000; PackageReference: 841B; Publisher: Altium Limited; PackageDescription: 80-Pin Plastic Quad Flat Pack 0.65 mm Pitch; Code_IPC: QFP65P1720X1720-80; ComponentLink1Description: Manufacturer Link; ComponentLink1URL: http://www.freescale.com/
footprint 841B_N (QFP, 80-Leads, Body 14 x 14mm, Pitch 0.65mm, IPC Medium Density)
footprint 841B_L (QFP, 80-Leads, Body 14 x 14mm, Pitch 0.65mm, IPC High Density)
footprint 841B_M (QFP, 80-Leads, Body 14 x 14mm, Pitch 0.65mm, IPC Low Density)
3D model MC68L11-841B (80-Pin Plastic Quad Flat Pack 0.65 mm Pitch)
pins: 1 PD3/MOSI (io), 2 PD4/SCK (io), 3 PD5/~{SS} (io), 4 PA7/PAI/OC1 (io), 5 PA6/OC2/OC1 (io), 6 PA5/OC3/OC1 (io), 7 PA4/OC4/OC1 (io), 8 PA3/IC4/OC5/OC1 (io), 9 PA2/IC1 (io), 10 PA1/IC2 (io), 11 PA0/IC3 (io), 12 VDD (power), 13 VSS (power), 14 PB7/ADDR15 (io), 15 PB6/ADDR14 (io), 16 PB5/ADDR13 (io), 17 PB4/ADDR12 (io), 18 PB3/ADDR11 (io), 19 PB2/ADDR10 (io), 20 PB1/ADDR9 (io), 21 PB0/ADDR8 (io), 22 PH0/PW1 (io), 23 PH1/PW2 (io), 24 PH2/PW3 (io), 25 PH3/PW4 (io), 26 PH4/CSIO (io), 27 PH5/CSGP1 (io), 28 PH6/CSGP2 (io), 29 PH7/CSPROG (io), 30 ~{XIRQ} (in), 31 VDD (power), 32 VSS (power), 33 PG7/R/~{W} (io), 34 PG6 (io), 35 PG5/XA18 (io), 36 PG4/XA17 (io), 37 PG3/XA16 (io), 38 PG2/XA15 (io), 39 PG1/XA14 (io), 40 PG0/XA13 (io), 41 AVDD (power), 42 PE7/AN7 (in), 43 PE6/AN6 (in), 44 PE5/AN5 (in), 45 PE4/AN4 (in), 46 PE3/AN3 (in), 47 PE2/AN2 (in), 48 PE1/AN1 (in), 49 PE0/AN0 (in), 50 VRL, 51 VRH, 52 AVSS (power), 53 PF7/ADDR7 (io), 54 PF6/ADDR6 (io), 55 PF5/ADDR5 (io), 56 PF4/ADDR4 (io), 57 PF3/ADDR3 (io), 58 PF2/ADDR2 (io), 59 PF1/ADDR1 (io), 60 PF0/ADDR0 (io), 61 ~{IRQ} (in), 62 PC0/DATA0 (io), 63 PC1/DATA1 (io), 64 PC2/DATA2 (io), 65 PC3/DATA3 (io), 66 PC4/DATA4 (io), 67 PC5/DATA5 (io), 68 PC6/DATA6 (io), 69 PC7/DATA7 (io), 70 VSS (power), 71 VDD (power), 72 E (out), 73 EXTAL, 74 XTAL, 75 ~{RESET} (io), 76 MODB/VSTBY (in), 77 MODA/~{LIR} (io), 78 PD0/RXD (io), 79 PD1/TXD (io), 80 PD2/MISO (io)

## MC68L11K0VFN3
designator U?
8-Bit Microcontroller; Note: Pins 20, 22 and 25 are used only during factory testing. Do not connect to external circuitry.; Published: 17-Jan-2003; LatestRevisionDate: 13-Apr-2006; LatestRevisionNote: IPC-7351 Footprint Added.; DatasheetVersion: Nov-2001; PackageVersion: 2001; PackageReference: 780; Publisher: Altium Limited; PackageDescription: 84-Pin Plastic Leaded Chip Carrier 1.27 mm Pitch; Code_IPC: PLCC-84; ComponentLink1Description: Manufacturer Link; ComponentLink1URL: http://www.freescale.com/
footprint 780_N (Leaded Chip Carrier, 84-Leads, Body 29.3x29.3mm, Pitch 1.27mm, IPC Medium Density)
footprint 780_L (Leaded Chip Carrier, 84-Leads, Body 29.3x29.3mm, Pitch 1.27mm, IPC High Density)
footprint 780_M (Leaded Chip Carrier, 84-Leads, Body 29.3x29.3mm, Pitch 1.27mm, IPC Low Density)
3D model MC68L11-780 (84-Pin Plastic Leaded Chip Carrier 1.27 mm Pitch)
pins: 1 PA0/IC3 (io), 2 VDD (power), 3 VSS (power), 4 PB7/ADDR15 (io), 5 PB6/ADDR14 (io), 6 PB5/ADDR13 (io), 7 PB4/ADDR12 (io), 8 PB3/ADDR11 (io), 9 PB2/ADDR10 (io), 10 PB1/ADDR9 (io), 11 PB0/ADDR8 (io), 12 PH0/PW1 (io), 13 PH1/PW2 (io), 14 PH2/PW3 (io), 15 PH3/PW4 (io), 16 PH4/CSIO (io), 17 PH5/CSGP1 (io), 18 PH6/CSGP2 (io), 19 PH7/CSPROG (io), 20 TEST16, 21 ~{XIRQ} (in), 22 TEST15, 23 VDD (power), 24 VSS (power), 25 TEST14, 26 PG7/R/~{W} (io), 27 PG6 (io), 28 PG5/XA18 (io), 29 PG4/XA17 (io), 30 PG3/XA16 (io), 31 PG2/XA15 (io), 32 PG1/XA14 (io), 33 PG0/XA13 (io), 34 AVDD (power), 35 PE7/AN7 (in), 36 PE6/AN6 (in), 37 PE5/AN5 (in), 38 PE4/AN4 (in), 39 PE3/AN3 (in), 40 PE2/AN2 (in), 41 PE1/AN1 (in), 42 PE0/AN0 (in), 43 VRL (in), 44 VRH (in), 45 AVSS (power), 46 PF7/ADDR7 (io), 47 PF6/ADDR6 (io), 48 PF5/ADDR5 (io), 49 PF4/ADDR4 (io), 50 PF3/ADDR3 (io), 51 PF2/ADDR2 (io), 52 PF1/ADDR1 (io), 53 PF0/ADDR0 (io), 54 ~{IRQ} (in), 55 PC0/DATA0 (io), 56 PC1/DATA1 (io), 57 PC2/DATA2 (io), 58 PC3/DATA3 (io), 59 PC4/DATA4 (io), 60 PC5/DATA5 (io), 61 PC6/DATA6 (io), 62 PC7/DATA7 (io), 63 VSS (power), 64 VDD (power), 65 E (out), 66 XOUT (out), 67 EXTAL, 68 XTAL, 69 ~{RESET} (io), 70 MODB/VSTBY (in), 71 MODA/~{LIR} (io), 72 PD0/RXD (io), 73 PD1/TXD (io), 74 PD2/MISO (io), 75 PD3/MOSI (io), 76 PD4/SCK (io), 77 PD5/~{SS} (io), 78 PA7/PAI/OC1 (io), 79 PA6/OC2/OC1 (io), 80 PA5/OC3/OC1 (io), 81 PA4/OC4/OC1 (io), 82 PA3/OC5/IC4/OC1 (io), 83 PA2/IC1 (io), 84 PA1/IC2 (io)

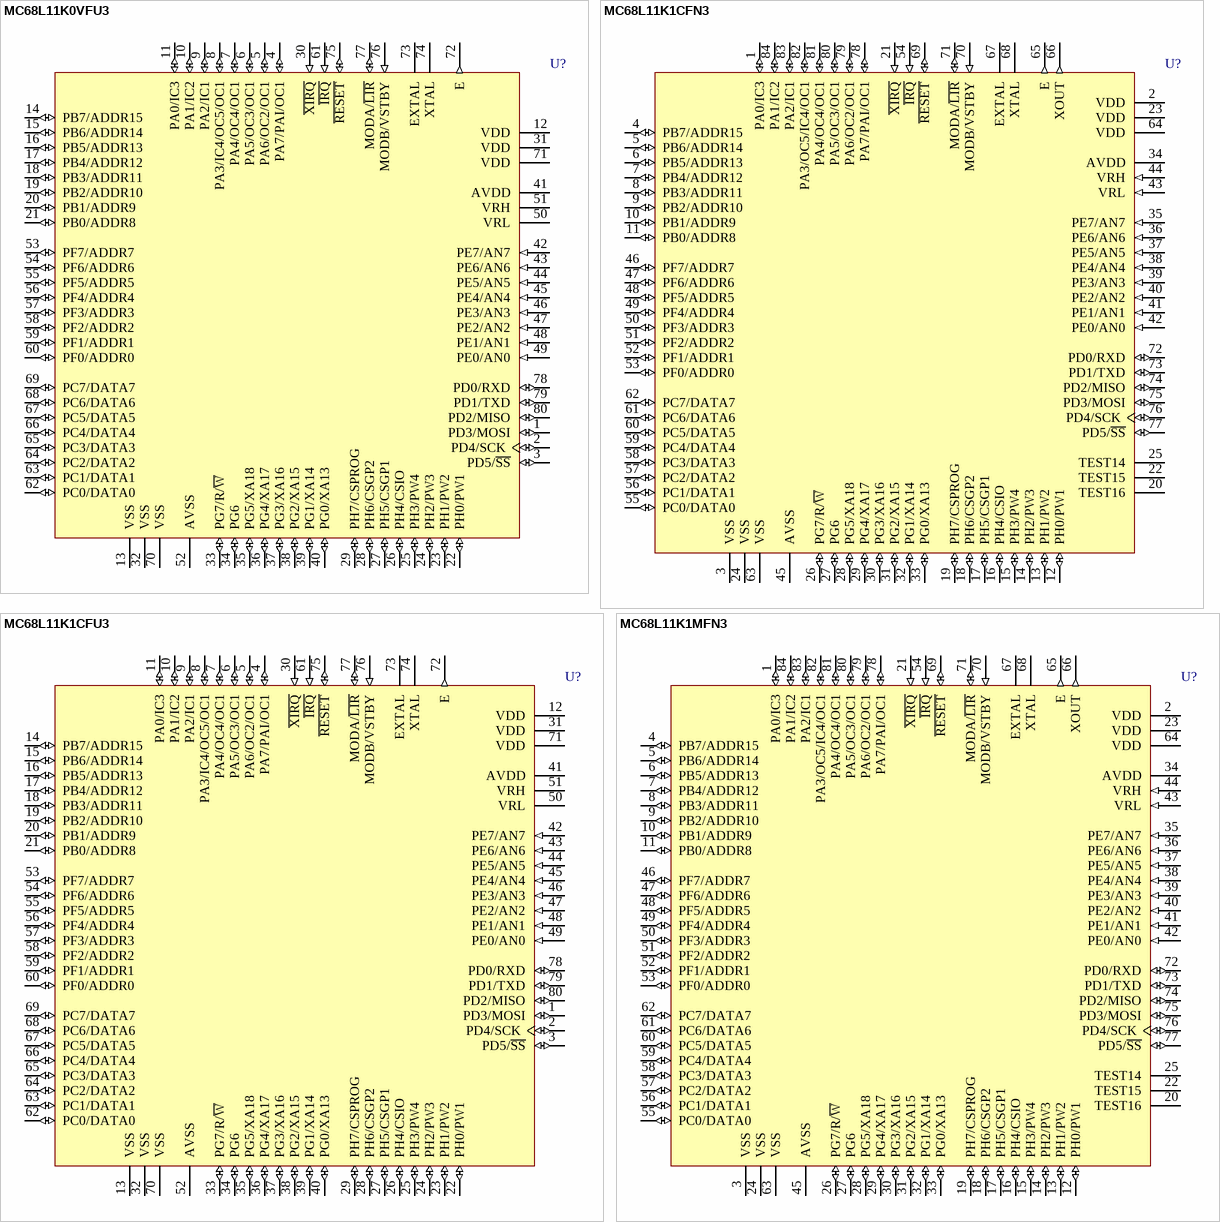
[diagram p108: symbols MC68L11K0VFU3 to MC68L11K1MFN3]

## MC68L11K0VFU3
designator U?
8-Bit Microcontroller; Published: 17-Jan-2003; LatestRevisionDate: 13-Apr-2006; LatestRevisionNote: IPC-7351 Footprint Added.; DatasheetVersion: Nov-2001; PackageVersion: 2000; PackageReference: 841B; Publisher: Altium Limited; PackageDescription: 80-Pin Plastic Quad Flat Pack 0.65 mm Pitch; Code_IPC: QFP65P1720X1720-80; ComponentLink1Description: Manufacturer Link; ComponentLink1URL: http://www.freescale.com/
footprint 841B_N (QFP, 80-Leads, Body 14 x 14mm, Pitch 0.65mm, IPC Medium Density)
footprint 841B_L (QFP, 80-Leads, Body 14 x 14mm, Pitch 0.65mm, IPC High Density)
footprint 841B_M (QFP, 80-Leads, Body 14 x 14mm, Pitch 0.65mm, IPC Low Density)
3D model MC68L11-841B (80-Pin Plastic Quad Flat Pack 0.65 mm Pitch)
pins: 1 PD3/MOSI (io), 2 PD4/SCK (io), 3 PD5/~{SS} (io), 4 PA7/PAI/OC1 (io), 5 PA6/OC2/OC1 (io), 6 PA5/OC3/OC1 (io), 7 PA4/OC4/OC1 (io), 8 PA3/IC4/OC5/OC1 (io), 9 PA2/IC1 (io), 10 PA1/IC2 (io), 11 PA0/IC3 (io), 12 VDD (power), 13 VSS (power), 14 PB7/ADDR15 (io), 15 PB6/ADDR14 (io), 16 PB5/ADDR13 (io), 17 PB4/ADDR12 (io), 18 PB3/ADDR11 (io), 19 PB2/ADDR10 (io), 20 PB1/ADDR9 (io), 21 PB0/ADDR8 (io), 22 PH0/PW1 (io), 23 PH1/PW2 (io), 24 PH2/PW3 (io), 25 PH3/PW4 (io), 26 PH4/CSIO (io), 27 PH5/CSGP1 (io), 28 PH6/CSGP2 (io), 29 PH7/CSPROG (io), 30 ~{XIRQ} (in), 31 VDD (power), 32 VSS (power), 33 PG7/R/~{W} (io), 34 PG6 (io), 35 PG5/XA18 (io), 36 PG4/XA17 (io), 37 PG3/XA16 (io), 38 PG2/XA15 (io), 39 PG1/XA14 (io), 40 PG0/XA13 (io), 41 AVDD (power), 42 PE7/AN7 (in), 43 PE6/AN6 (in), 44 PE5/AN5 (in), 45 PE4/AN4 (in), 46 PE3/AN3 (in), 47 PE2/AN2 (in), 48 PE1/AN1 (in), 49 PE0/AN0 (in), 50 VRL, 51 VRH, 52 AVSS (power), 53 PF7/ADDR7 (io), 54 PF6/ADDR6 (io), 55 PF5/ADDR5 (io), 56 PF4/ADDR4 (io), 57 PF3/ADDR3 (io), 58 PF2/ADDR2 (io), 59 PF1/ADDR1 (io), 60 PF0/ADDR0 (io), 61 ~{IRQ} (in), 62 PC0/DATA0 (io), 63 PC1/DATA1 (io), 64 PC2/DATA2 (io), 65 PC3/DATA3 (io), 66 PC4/DATA4 (io), 67 PC5/DATA5 (io), 68 PC6/DATA6 (io), 69 PC7/DATA7 (io), 70 VSS (power), 71 VDD (power), 72 E (out), 73 EXTAL, 74 XTAL, 75 ~{RESET} (io), 76 MODB/VSTBY (in), 77 MODA/~{LIR} (io), 78 PD0/RXD (io), 79 PD1/TXD (io), 80 PD2/MISO (io)

## MC68L11K1CFN3
designator U?
8-Bit Microcontroller; Note: Pins 20, 22 and 25 are used only during factory testing. Do not connect to external circuitry.; Published: 17-Jan-2003; LatestRevisionDate: 13-Apr-2006; LatestRevisionNote: IPC-7351 Footprint Added.; DatasheetVersion: Nov-2001; PackageVersion: 2001; PackageReference: 780; Publisher: Altium Limited; PackageDescription: 84-Pin Plastic Leaded Chip Carrier 1.27 mm Pitch; Code_IPC: PLCC-84; ComponentLink1Description: Manufacturer Link; ComponentLink1URL: http://www.freescale.com/
footprint 780_N (Leaded Chip Carrier, 84-Leads, Body 29.3x29.3mm, Pitch 1.27mm, IPC Medium Density)
footprint 780_L (Leaded Chip Carrier, 84-Leads, Body 29.3x29.3mm, Pitch 1.27mm, IPC High Density)
footprint 780_M (Leaded Chip Carrier, 84-Leads, Body 29.3x29.3mm, Pitch 1.27mm, IPC Low Density)
3D model MC68L11-780 (84-Pin Plastic Leaded Chip Carrier 1.27 mm Pitch)
pins: 1 PA0/IC3 (io), 2 VDD (power), 3 VSS (power), 4 PB7/ADDR15 (io), 5 PB6/ADDR14 (io), 6 PB5/ADDR13 (io), 7 PB4/ADDR12 (io), 8 PB3/ADDR11 (io), 9 PB2/ADDR10 (io), 10 PB1/ADDR9 (io), 11 PB0/ADDR8 (io), 12 PH0/PW1 (io), 13 PH1/PW2 (io), 14 PH2/PW3 (io), 15 PH3/PW4 (io), 16 PH4/CSIO (io), 17 PH5/CSGP1 (io), 18 PH6/CSGP2 (io), 19 PH7/CSPROG (io), 20 TEST16, 21 ~{XIRQ} (in), 22 TEST15, 23 VDD (power), 24 VSS (power), 25 TEST14, 26 PG7/R/~{W} (io), 27 PG6 (io), 28 PG5/XA18 (io), 29 PG4/XA17 (io), 30 PG3/XA16 (io), 31 PG2/XA15 (io), 32 PG1/XA14 (io), 33 PG0/XA13 (io), 34 AVDD (power), 35 PE7/AN7 (in), 36 PE6/AN6 (in), 37 PE5/AN5 (in), 38 PE4/AN4 (in), 39 PE3/AN3 (in), 40 PE2/AN2 (in), 41 PE1/AN1 (in), 42 PE0/AN0 (in), 43 VRL (in), 44 VRH (in), 45 AVSS (power), 46 PF7/ADDR7 (io), 47 PF6/ADDR6 (io), 48 PF5/ADDR5 (io), 49 PF4/ADDR4 (io), 50 PF3/ADDR3 (io), 51 PF2/ADDR2 (io), 52 PF1/ADDR1 (io), 53 PF0/ADDR0 (io), 54 ~{IRQ} (in), 55 PC0/DATA0 (io), 56 PC1/DATA1 (io), 57 PC2/DATA2 (io), 58 PC3/DATA3 (io), 59 PC4/DATA4 (io), 60 PC5/DATA5 (io), 61 PC6/DATA6 (io), 62 PC7/DATA7 (io), 63 VSS (power), 64 VDD (power), 65 E (out), 66 XOUT (out), 67 EXTAL, 68 XTAL, 69 ~{RESET} (io), 70 MODB/VSTBY (in), 71 MODA/~{LIR} (io), 72 PD0/RXD (io), 73 PD1/TXD (io), 74 PD2/MISO (io), 75 PD3/MOSI (io), 76 PD4/SCK (io), 77 PD5/~{SS} (io), 78 PA7/PAI/OC1 (io), 79 PA6/OC2/OC1 (io), 80 PA5/OC3/OC1 (io), 81 PA4/OC4/OC1 (io), 82 PA3/OC5/IC4/OC1 (io), 83 PA2/IC1 (io), 84 PA1/IC2 (io)

## MC68L11K1CFU3
designator U?
8-Bit Microcontroller; Published: 17-Jan-2003; LatestRevisionDate: 13-Apr-2006; LatestRevisionNote: IPC-7351 Footprint Added.; DatasheetVersion: Nov-2001; PackageVersion: 2000; PackageReference: 841B; Publisher: Altium Limited; PackageDescription: 80-Pin Plastic Quad Flat Pack 0.65 mm Pitch; Code_IPC: QFP65P1720X1720-80; ComponentLink1Description: Manufacturer Link; ComponentLink1URL: http://www.freescale.com/
footprint 841B_N (QFP, 80-Leads, Body 14 x 14mm, Pitch 0.65mm, IPC Medium Density)
footprint 841B_L (QFP, 80-Leads, Body 14 x 14mm, Pitch 0.65mm, IPC High Density)
footprint 841B_M (QFP, 80-Leads, Body 14 x 14mm, Pitch 0.65mm, IPC Low Density)
3D model MC68L11-841B (80-Pin Plastic Quad Flat Pack 0.65 mm Pitch)
pins: 1 PD3/MOSI (io), 2 PD4/SCK (io), 3 PD5/~{SS} (io), 4 PA7/PAI/OC1 (io), 5 PA6/OC2/OC1 (io), 6 PA5/OC3/OC1 (io), 7 PA4/OC4/OC1 (io), 8 PA3/IC4/OC5/OC1 (io), 9 PA2/IC1 (io), 10 PA1/IC2 (io), 11 PA0/IC3 (io), 12 VDD (power), 13 VSS (power), 14 PB7/ADDR15 (io), 15 PB6/ADDR14 (io), 16 PB5/ADDR13 (io), 17 PB4/ADDR12 (io), 18 PB3/ADDR11 (io), 19 PB2/ADDR10 (io), 20 PB1/ADDR9 (io), 21 PB0/ADDR8 (io), 22 PH0/PW1 (io), 23 PH1/PW2 (io), 24 PH2/PW3 (io), 25 PH3/PW4 (io), 26 PH4/CSIO (io), 27 PH5/CSGP1 (io), 28 PH6/CSGP2 (io), 29 PH7/CSPROG (io), 30 ~{XIRQ} (in), 31 VDD (power), 32 VSS (power), 33 PG7/R/~{W} (io), 34 PG6 (io), 35 PG5/XA18 (io), 36 PG4/XA17 (io), 37 PG3/XA16 (io), 38 PG2/XA15 (io), 39 PG1/XA14 (io), 40 PG0/XA13 (io), 41 AVDD (power), 42 PE7/AN7 (in), 43 PE6/AN6 (in), 44 PE5/AN5 (in), 45 PE4/AN4 (in), 46 PE3/AN3 (in), 47 PE2/AN2 (in), 48 PE1/AN1 (in), 49 PE0/AN0 (in), 50 VRL, 51 VRH, 52 AVSS (power), 53 PF7/ADDR7 (io), 54 PF6/ADDR6 (io), 55 PF5/ADDR5 (io), 56 PF4/ADDR4 (io), 57 PF3/ADDR3 (io), 58 PF2/ADDR2 (io), 59 PF1/ADDR1 (io), 60 PF0/ADDR0 (io), 61 ~{IRQ} (in), 62 PC0/DATA0 (io), 63 PC1/DATA1 (io), 64 PC2/DATA2 (io), 65 PC3/DATA3 (io), 66 PC4/DATA4 (io), 67 PC5/DATA5 (io), 68 PC6/DATA6 (io), 69 PC7/DATA7 (io), 70 VSS (power), 71 VDD (power), 72 E (out), 73 EXTAL, 74 XTAL, 75 ~{RESET} (io), 76 MODB/VSTBY (in), 77 MODA/~{LIR} (io), 78 PD0/RXD (io), 79 PD1/TXD (io), 80 PD2/MISO (io)

## MC68L11K1MFN3
designator U?
8-Bit Microcontroller; Note: Pins 20, 22 and 25 are used only during factory testing. Do not connect to external circuitry.; Published: 17-Jan-2003; LatestRevisionDate: 13-Apr-2006; LatestRevisionNote: IPC-7351 Footprint Added.; DatasheetVersion: Nov-2001; PackageVersion: 2001; PackageReference: 780; Publisher: Altium Limited; PackageDescription: 84-Pin Plastic Leaded Chip Carrier 1.27 mm Pitch; Code_IPC: PLCC-84; ComponentLink1Description: Manufacturer Link; ComponentLink1URL: http://www.freescale.com/
footprint 780_N (Leaded Chip Carrier, 84-Leads, Body 29.3x29.3mm, Pitch 1.27mm, IPC Medium Density)
footprint 780_L (Leaded Chip Carrier, 84-Leads, Body 29.3x29.3mm, Pitch 1.27mm, IPC High Density)
footprint 780_M (Leaded Chip Carrier, 84-Leads, Body 29.3x29.3mm, Pitch 1.27mm, IPC Low Density)
3D model MC68L11-780 (84-Pin Plastic Leaded Chip Carrier 1.27 mm Pitch)
pins: 1 PA0/IC3 (io), 2 VDD (power), 3 VSS (power), 4 PB7/ADDR15 (io), 5 PB6/ADDR14 (io), 6 PB5/ADDR13 (io), 7 PB4/ADDR12 (io), 8 PB3/ADDR11 (io), 9 PB2/ADDR10 (io), 10 PB1/ADDR9 (io), 11 PB0/ADDR8 (io), 12 PH0/PW1 (io), 13 PH1/PW2 (io), 14 PH2/PW3 (io), 15 PH3/PW4 (io), 16 PH4/CSIO (io), 17 PH5/CSGP1 (io), 18 PH6/CSGP2 (io), 19 PH7/CSPROG (io), 20 TEST16, 21 ~{XIRQ} (in), 22 TEST15, 23 VDD (power), 24 VSS (power), 25 TEST14, 26 PG7/R/~{W} (io), 27 PG6 (io), 28 PG5/XA18 (io), 29 PG4/XA17 (io), 30 PG3/XA16 (io), 31 PG2/XA15 (io), 32 PG1/XA14 (io), 33 PG0/XA13 (io), 34 AVDD (power), 35 PE7/AN7 (in), 36 PE6/AN6 (in), 37 PE5/AN5 (in), 38 PE4/AN4 (in), 39 PE3/AN3 (in), 40 PE2/AN2 (in), 41 PE1/AN1 (in), 42 PE0/AN0 (in), 43 VRL (in), 44 VRH (in), 45 AVSS (power), 46 PF7/ADDR7 (io), 47 PF6/ADDR6 (io), 48 PF5/ADDR5 (io), 49 PF4/ADDR4 (io), 50 PF3/ADDR3 (io), 51 PF2/ADDR2 (io), 52 PF1/ADDR1 (io), 53 PF0/ADDR0 (io), 54 ~{IRQ} (in), 55 PC0/DATA0 (io), 56 PC1/DATA1 (io), 57 PC2/DATA2 (io), 58 PC3/DATA3 (io), 59 PC4/DATA4 (io), 60 PC5/DATA5 (io), 61 PC6/DATA6 (io), 62 PC7/DATA7 (io), 63 VSS (power), 64 VDD (power), 65 E (out), 66 XOUT (out), 67 EXTAL, 68 XTAL, 69 ~{RESET} (io), 70 MODB/VSTBY (in), 71 MODA/~{LIR} (io), 72 PD0/RXD (io), 73 PD1/TXD (io), 74 PD2/MISO (io), 75 PD3/MOSI (io), 76 PD4/SCK (io), 77 PD5/~{SS} (io), 78 PA7/PAI/OC1 (io), 79 PA6/OC2/OC1 (io), 80 PA5/OC3/OC1 (io), 81 PA4/OC4/OC1 (io), 82 PA3/OC5/IC4/OC1 (io), 83 PA2/IC1 (io), 84 PA1/IC2 (io)

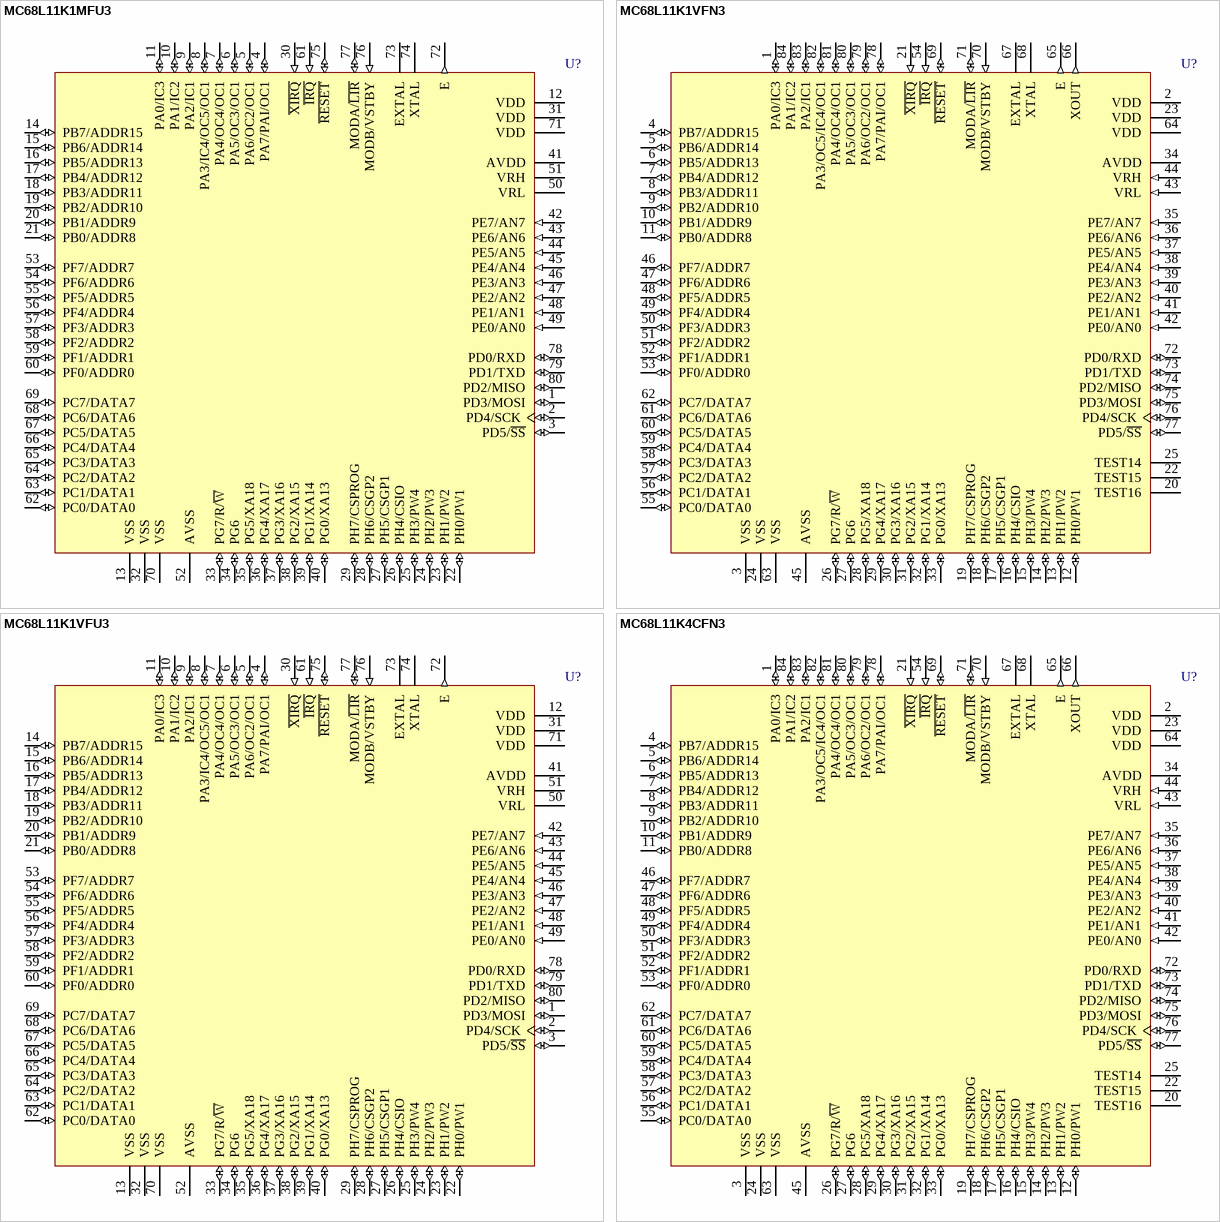
[diagram p109: symbols MC68L11K1MFU3 to MC68L11K4CFN3]

## MC68L11K1MFU3
designator U?
8-Bit Microcontroller; Published: 17-Jan-2003; LatestRevisionDate: 13-Apr-2006; LatestRevisionNote: IPC-7351 Footprint Added.; DatasheetVersion: Nov-2001; PackageVersion: 2000; PackageReference: 841B; Publisher: Altium Limited; PackageDescription: 80-Pin Plastic Quad Flat Pack 0.65 mm Pitch; Code_IPC: QFP65P1720X1720-80; ComponentLink1Description: Manufacturer Link; ComponentLink1URL: http://www.freescale.com/
footprint 841B_N (QFP, 80-Leads, Body 14 x 14mm, Pitch 0.65mm, IPC Medium Density)
footprint 841B_L (QFP, 80-Leads, Body 14 x 14mm, Pitch 0.65mm, IPC High Density)
footprint 841B_M (QFP, 80-Leads, Body 14 x 14mm, Pitch 0.65mm, IPC Low Density)
3D model MC68L11-841B (80-Pin Plastic Quad Flat Pack 0.65 mm Pitch)
pins: 1 PD3/MOSI (io), 2 PD4/SCK (io), 3 PD5/~{SS} (io), 4 PA7/PAI/OC1 (io), 5 PA6/OC2/OC1 (io), 6 PA5/OC3/OC1 (io), 7 PA4/OC4/OC1 (io), 8 PA3/IC4/OC5/OC1 (io), 9 PA2/IC1 (io), 10 PA1/IC2 (io), 11 PA0/IC3 (io), 12 VDD (power), 13 VSS (power), 14 PB7/ADDR15 (io), 15 PB6/ADDR14 (io), 16 PB5/ADDR13 (io), 17 PB4/ADDR12 (io), 18 PB3/ADDR11 (io), 19 PB2/ADDR10 (io), 20 PB1/ADDR9 (io), 21 PB0/ADDR8 (io), 22 PH0/PW1 (io), 23 PH1/PW2 (io), 24 PH2/PW3 (io), 25 PH3/PW4 (io), 26 PH4/CSIO (io), 27 PH5/CSGP1 (io), 28 PH6/CSGP2 (io), 29 PH7/CSPROG (io), 30 ~{XIRQ} (in), 31 VDD (power), 32 VSS (power), 33 PG7/R/~{W} (io), 34 PG6 (io), 35 PG5/XA18 (io), 36 PG4/XA17 (io), 37 PG3/XA16 (io), 38 PG2/XA15 (io), 39 PG1/XA14 (io), 40 PG0/XA13 (io), 41 AVDD (power), 42 PE7/AN7 (in), 43 PE6/AN6 (in), 44 PE5/AN5 (in), 45 PE4/AN4 (in), 46 PE3/AN3 (in), 47 PE2/AN2 (in), 48 PE1/AN1 (in), 49 PE0/AN0 (in), 50 VRL, 51 VRH, 52 AVSS (power), 53 PF7/ADDR7 (io), 54 PF6/ADDR6 (io), 55 PF5/ADDR5 (io), 56 PF4/ADDR4 (io), 57 PF3/ADDR3 (io), 58 PF2/ADDR2 (io), 59 PF1/ADDR1 (io), 60 PF0/ADDR0 (io), 61 ~{IRQ} (in), 62 PC0/DATA0 (io), 63 PC1/DATA1 (io), 64 PC2/DATA2 (io), 65 PC3/DATA3 (io), 66 PC4/DATA4 (io), 67 PC5/DATA5 (io), 68 PC6/DATA6 (io), 69 PC7/DATA7 (io), 70 VSS (power), 71 VDD (power), 72 E (out), 73 EXTAL, 74 XTAL, 75 ~{RESET} (io), 76 MODB/VSTBY (in), 77 MODA/~{LIR} (io), 78 PD0/RXD (io), 79 PD1/TXD (io), 80 PD2/MISO (io)

## MC68L11K1VFN3
designator U?
8-Bit Microcontroller; Note: Pins 20, 22 and 25 are used only during factory testing. Do not connect to external circuitry.; Published: 17-Jan-2003; LatestRevisionDate: 13-Apr-2006; LatestRevisionNote: IPC-7351 Footprint Added.; DatasheetVersion: Nov-2001; PackageVersion: 2001; PackageReference: 780; Publisher: Altium Limited; PackageDescription: 84-Pin Plastic Leaded Chip Carrier 1.27 mm Pitch; Code_IPC: PLCC-84; ComponentLink1Description: Manufacturer Link; ComponentLink1URL: http://www.freescale.com/
footprint 780_N (Leaded Chip Carrier, 84-Leads, Body 29.3x29.3mm, Pitch 1.27mm, IPC Medium Density)
footprint 780_L (Leaded Chip Carrier, 84-Leads, Body 29.3x29.3mm, Pitch 1.27mm, IPC High Density)
footprint 780_M (Leaded Chip Carrier, 84-Leads, Body 29.3x29.3mm, Pitch 1.27mm, IPC Low Density)
3D model MC68L11-780 (84-Pin Plastic Leaded Chip Carrier 1.27 mm Pitch)
pins: 1 PA0/IC3 (io), 2 VDD (power), 3 VSS (power), 4 PB7/ADDR15 (io), 5 PB6/ADDR14 (io), 6 PB5/ADDR13 (io), 7 PB4/ADDR12 (io), 8 PB3/ADDR11 (io), 9 PB2/ADDR10 (io), 10 PB1/ADDR9 (io), 11 PB0/ADDR8 (io), 12 PH0/PW1 (io), 13 PH1/PW2 (io), 14 PH2/PW3 (io), 15 PH3/PW4 (io), 16 PH4/CSIO (io), 17 PH5/CSGP1 (io), 18 PH6/CSGP2 (io), 19 PH7/CSPROG (io), 20 TEST16, 21 ~{XIRQ} (in), 22 TEST15, 23 VDD (power), 24 VSS (power), 25 TEST14, 26 PG7/R/~{W} (io), 27 PG6 (io), 28 PG5/XA18 (io), 29 PG4/XA17 (io), 30 PG3/XA16 (io), 31 PG2/XA15 (io), 32 PG1/XA14 (io), 33 PG0/XA13 (io), 34 AVDD (power), 35 PE7/AN7 (in), 36 PE6/AN6 (in), 37 PE5/AN5 (in), 38 PE4/AN4 (in), 39 PE3/AN3 (in), 40 PE2/AN2 (in), 41 PE1/AN1 (in), 42 PE0/AN0 (in), 43 VRL (in), 44 VRH (in), 45 AVSS (power), 46 PF7/ADDR7 (io), 47 PF6/ADDR6 (io), 48 PF5/ADDR5 (io), 49 PF4/ADDR4 (io), 50 PF3/ADDR3 (io), 51 PF2/ADDR2 (io), 52 PF1/ADDR1 (io), 53 PF0/ADDR0 (io), 54 ~{IRQ} (in), 55 PC0/DATA0 (io), 56 PC1/DATA1 (io), 57 PC2/DATA2 (io), 58 PC3/DATA3 (io), 59 PC4/DATA4 (io), 60 PC5/DATA5 (io), 61 PC6/DATA6 (io), 62 PC7/DATA7 (io), 63 VSS (power), 64 VDD (power), 65 E (out), 66 XOUT (out), 67 EXTAL, 68 XTAL, 69 ~{RESET} (io), 70 MODB/VSTBY (in), 71 MODA/~{LIR} (io), 72 PD0/RXD (io), 73 PD1/TXD (io), 74 PD2/MISO (io), 75 PD3/MOSI (io), 76 PD4/SCK (io), 77 PD5/~{SS} (io), 78 PA7/PAI/OC1 (io), 79 PA6/OC2/OC1 (io), 80 PA5/OC3/OC1 (io), 81 PA4/OC4/OC1 (io), 82 PA3/OC5/IC4/OC1 (io), 83 PA2/IC1 (io), 84 PA1/IC2 (io)

## MC68L11K1VFU3
designator U?
8-Bit Microcontroller; Published: 17-Jan-2003; LatestRevisionDate: 13-Apr-2006; LatestRevisionNote: IPC-7351 Footprint Added.; DatasheetVersion: Nov-2001; PackageVersion: 2000; PackageReference: 841B; Publisher: Altium Limited; PackageDescription: 80-Pin Plastic Quad Flat Pack 0.65 mm Pitch; Code_IPC: QFP65P1720X1720-80; ComponentLink1Description: Manufacturer Link; ComponentLink1URL: http://www.freescale.com/
footprint 841B_N (QFP, 80-Leads, Body 14 x 14mm, Pitch 0.65mm, IPC Medium Density)
footprint 841B_L (QFP, 80-Leads, Body 14 x 14mm, Pitch 0.65mm, IPC High Density)
footprint 841B_M (QFP, 80-Leads, Body 14 x 14mm, Pitch 0.65mm, IPC Low Density)
3D model MC68L11-841B (80-Pin Plastic Quad Flat Pack 0.65 mm Pitch)
pins: 1 PD3/MOSI (io), 2 PD4/SCK (io), 3 PD5/~{SS} (io), 4 PA7/PAI/OC1 (io), 5 PA6/OC2/OC1 (io), 6 PA5/OC3/OC1 (io), 7 PA4/OC4/OC1 (io), 8 PA3/IC4/OC5/OC1 (io), 9 PA2/IC1 (io), 10 PA1/IC2 (io), 11 PA0/IC3 (io), 12 VDD (power), 13 VSS (power), 14 PB7/ADDR15 (io), 15 PB6/ADDR14 (io), 16 PB5/ADDR13 (io), 17 PB4/ADDR12 (io), 18 PB3/ADDR11 (io), 19 PB2/ADDR10 (io), 20 PB1/ADDR9 (io), 21 PB0/ADDR8 (io), 22 PH0/PW1 (io), 23 PH1/PW2 (io), 24 PH2/PW3 (io), 25 PH3/PW4 (io), 26 PH4/CSIO (io), 27 PH5/CSGP1 (io), 28 PH6/CSGP2 (io), 29 PH7/CSPROG (io), 30 ~{XIRQ} (in), 31 VDD (power), 32 VSS (power), 33 PG7/R/~{W} (io), 34 PG6 (io), 35 PG5/XA18 (io), 36 PG4/XA17 (io), 37 PG3/XA16 (io), 38 PG2/XA15 (io), 39 PG1/XA14 (io), 40 PG0/XA13 (io), 41 AVDD (power), 42 PE7/AN7 (in), 43 PE6/AN6 (in), 44 PE5/AN5 (in), 45 PE4/AN4 (in), 46 PE3/AN3 (in), 47 PE2/AN2 (in), 48 PE1/AN1 (in), 49 PE0/AN0 (in), 50 VRL, 51 VRH, 52 AVSS (power), 53 PF7/ADDR7 (io), 54 PF6/ADDR6 (io), 55 PF5/ADDR5 (io), 56 PF4/ADDR4 (io), 57 PF3/ADDR3 (io), 58 PF2/ADDR2 (io), 59 PF1/ADDR1 (io), 60 PF0/ADDR0 (io), 61 ~{IRQ} (in), 62 PC0/DATA0 (io), 63 PC1/DATA1 (io), 64 PC2/DATA2 (io), 65 PC3/DATA3 (io), 66 PC4/DATA4 (io), 67 PC5/DATA5 (io), 68 PC6/DATA6 (io), 69 PC7/DATA7 (io), 70 VSS (power), 71 VDD (power), 72 E (out), 73 EXTAL, 74 XTAL, 75 ~{RESET} (io), 76 MODB/VSTBY (in), 77 MODA/~{LIR} (io), 78 PD0/RXD (io), 79 PD1/TXD (io), 80 PD2/MISO (io)

## MC68L11K4CFN3
designator U?
8-Bit Microcontroller; Note: Pins 20, 22 and 25 are used only during factory testing. Do not connect to external circuitry.; Published: 17-Jan-2003; LatestRevisionDate: 13-Apr-2006; LatestRevisionNote: IPC-7351 Footprint Added.; DatasheetVersion: Nov-2001; PackageVersion: 2001; PackageReference: 780; Publisher: Altium Limited; PackageDescription: 84-Pin Plastic Leaded Chip Carrier 1.27 mm Pitch; Code_IPC: PLCC-84; ComponentLink1Description: Manufacturer Link; ComponentLink1URL: http://www.freescale.com/
footprint 780_N (Leaded Chip Carrier, 84-Leads, Body 29.3x29.3mm, Pitch 1.27mm, IPC Medium Density)
footprint 780_L (Leaded Chip Carrier, 84-Leads, Body 29.3x29.3mm, Pitch 1.27mm, IPC High Density)
footprint 780_M (Leaded Chip Carrier, 84-Leads, Body 29.3x29.3mm, Pitch 1.27mm, IPC Low Density)
3D model MC68L11-780 (84-Pin Plastic Leaded Chip Carrier 1.27 mm Pitch)
pins: 1 PA0/IC3 (io), 2 VDD (power), 3 VSS (power), 4 PB7/ADDR15 (io), 5 PB6/ADDR14 (io), 6 PB5/ADDR13 (io), 7 PB4/ADDR12 (io), 8 PB3/ADDR11 (io), 9 PB2/ADDR10 (io), 10 PB1/ADDR9 (io), 11 PB0/ADDR8 (io), 12 PH0/PW1 (io), 13 PH1/PW2 (io), 14 PH2/PW3 (io), 15 PH3/PW4 (io), 16 PH4/CSIO (io), 17 PH5/CSGP1 (io), 18 PH6/CSGP2 (io), 19 PH7/CSPROG (io), 20 TEST16, 21 ~{XIRQ} (in), 22 TEST15, 23 VDD (power), 24 VSS (power), 25 TEST14, 26 PG7/R/~{W} (io), 27 PG6 (io), 28 PG5/XA18 (io), 29 PG4/XA17 (io), 30 PG3/XA16 (io), 31 PG2/XA15 (io), 32 PG1/XA14 (io), 33 PG0/XA13 (io), 34 AVDD (power), 35 PE7/AN7 (in), 36 PE6/AN6 (in), 37 PE5/AN5 (in), 38 PE4/AN4 (in), 39 PE3/AN3 (in), 40 PE2/AN2 (in), 41 PE1/AN1 (in), 42 PE0/AN0 (in), 43 VRL (in), 44 VRH (in), 45 AVSS (power), 46 PF7/ADDR7 (io), 47 PF6/ADDR6 (io), 48 PF5/ADDR5 (io), 49 PF4/ADDR4 (io), 50 PF3/ADDR3 (io), 51 PF2/ADDR2 (io), 52 PF1/ADDR1 (io), 53 PF0/ADDR0 (io), 54 ~{IRQ} (in), 55 PC0/DATA0 (io), 56 PC1/DATA1 (io), 57 PC2/DATA2 (io), 58 PC3/DATA3 (io), 59 PC4/DATA4 (io), 60 PC5/DATA5 (io), 61 PC6/DATA6 (io), 62 PC7/DATA7 (io), 63 VSS (power), 64 VDD (power), 65 E (out), 66 XOUT (out), 67 EXTAL, 68 XTAL, 69 ~{RESET} (io), 70 MODB/VSTBY (in), 71 MODA/~{LIR} (io), 72 PD0/RXD (io), 73 PD1/TXD (io), 74 PD2/MISO (io), 75 PD3/MOSI (io), 76 PD4/SCK (io), 77 PD5/~{SS} (io), 78 PA7/PAI/OC1 (io), 79 PA6/OC2/OC1 (io), 80 PA5/OC3/OC1 (io), 81 PA4/OC4/OC1 (io), 82 PA3/OC5/IC4/OC1 (io), 83 PA2/IC1 (io), 84 PA1/IC2 (io)

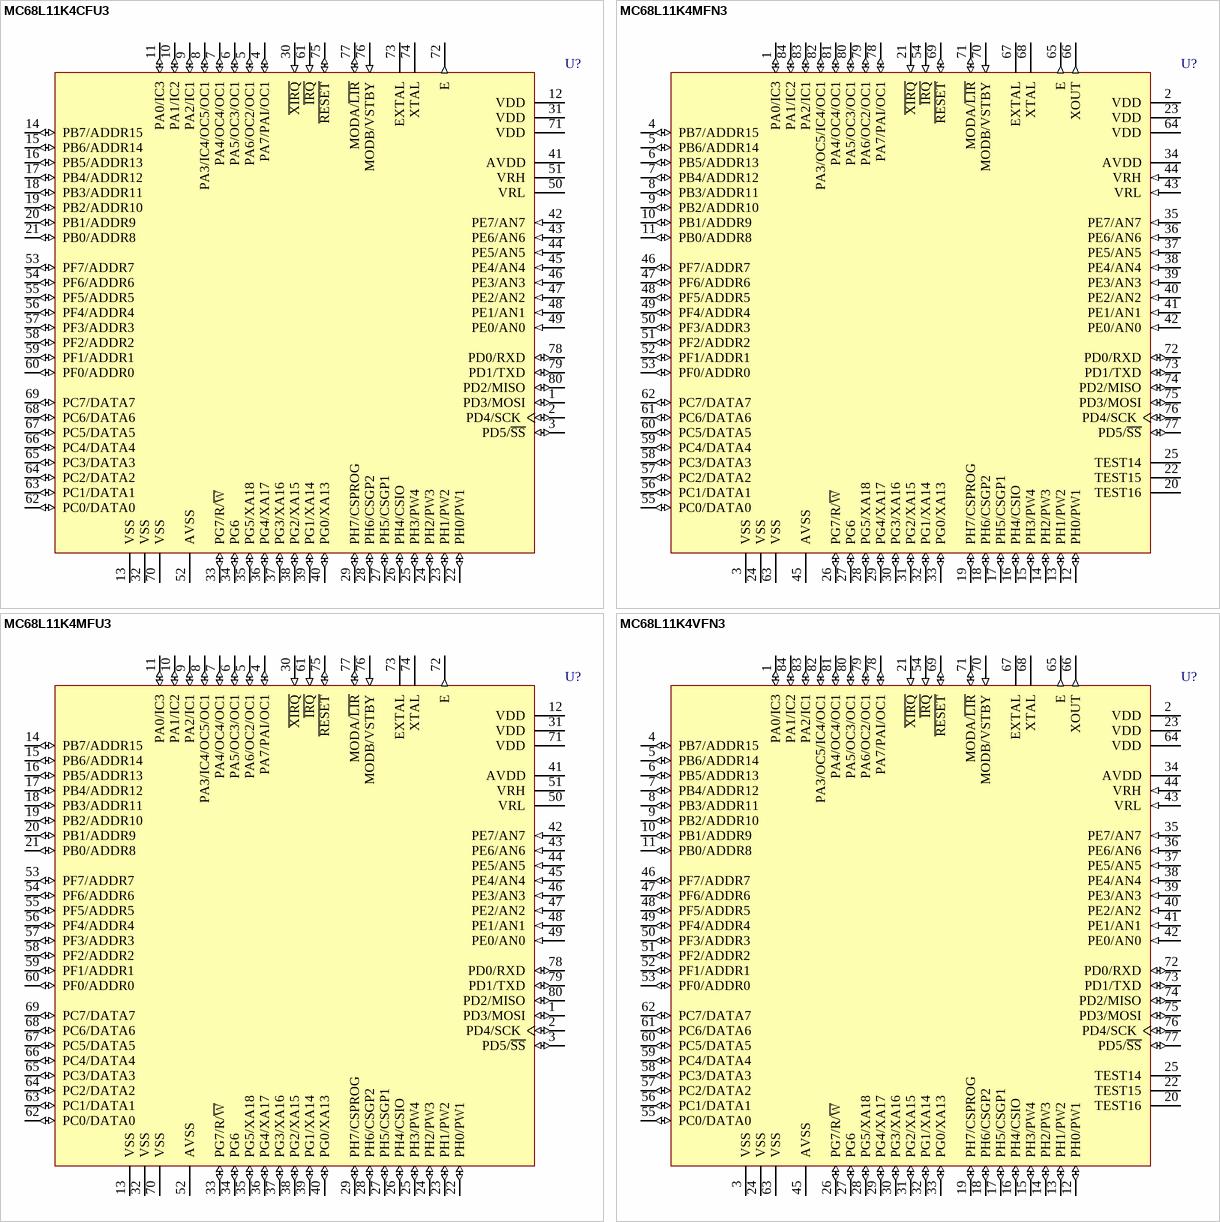
[diagram p110: symbols MC68L11K4CFU3 to MC68L11K4VFN3]